# Altium integrated library AMP D Subminiature 050 Series.IntLib: 275 symbols (part 3 of 7)
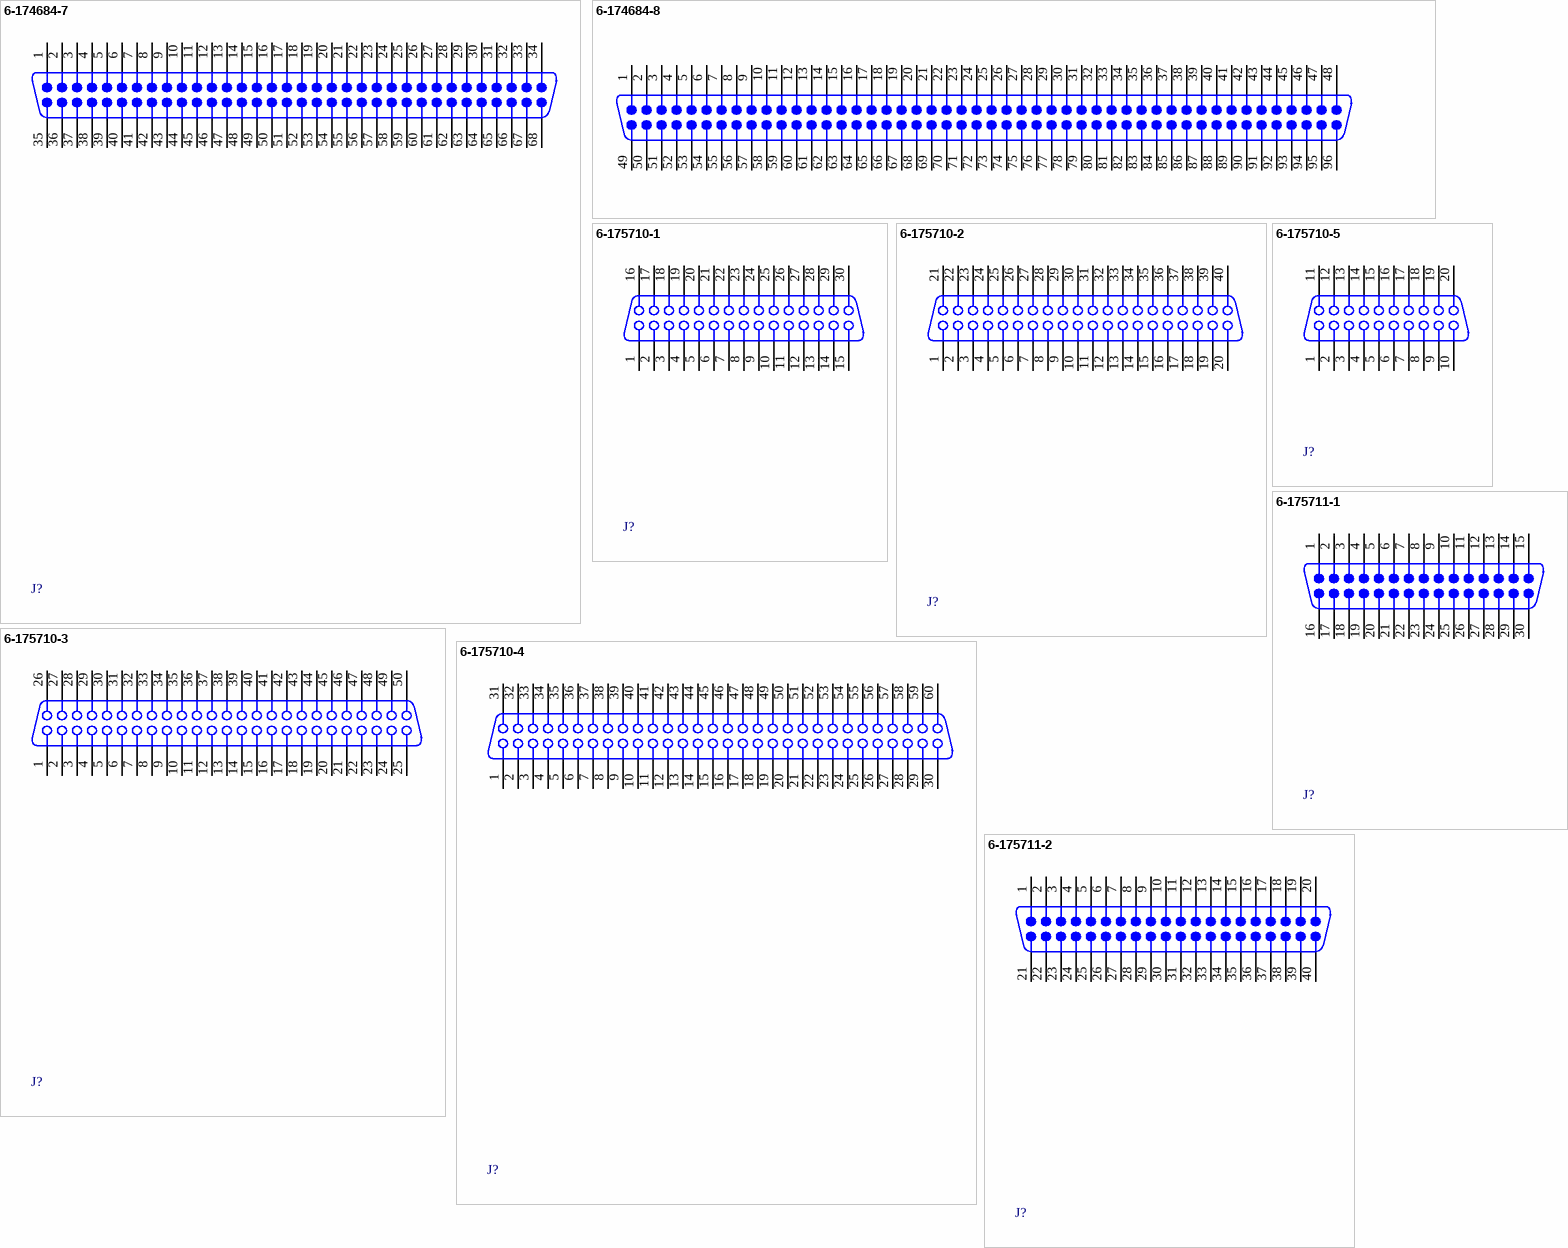
[diagram p32: symbols 6-174684-7 to 6-175711-2]

## 6-175711-2
designator J?
Cap Assembly, Vertical with Kink AMPLIMITE .050 Series I B-to-B Connector; Positions: 40; Gender: Plug Header; Note: Without Mating Lock; PCB_Layout: Complies with manufacturer's recommendation.; DrillSize: Corresponds to nominal value.; Published: 17-Jul-2002; DatasheetDocument: Sep-1993; PackageDocument: Sep-1993; PackageReference: 6-175711-2; Publisher: Altium Limited; Orientation: Vertical; Note: Series I; ComponentLink1Description: Manufacturer Link; ComponentLink1URL: http://www.tycoelectronics.com/; ComponentLink2Description: Packaging Specification; ComponentLink2URL: http://ecommas.tycoelectronics.com/commerce/DocumentDelivery/DDEController?Action=showdoc&DocId=Customer+Drawing%7F175711%7FC%7Fpdf%7FEnglish%7FENG_CD_175711_C.pdf
footprint 6-175711-2 (Connector; D Subminiature 050 Series; 40 Position; Vertical)
signal-integrity model D Subminiature
pins: 1, 2, 3, 4, 5, 6, 7, 8, 9, 10, 11, 12, 13, 14, 15, 16, 17, 18, 19, 20, 21, 22, 23, 24, 25, 26, 27, 28, 29, 30, 31, 32, 33, 34, 35, 36, 37, 38, 39, 40

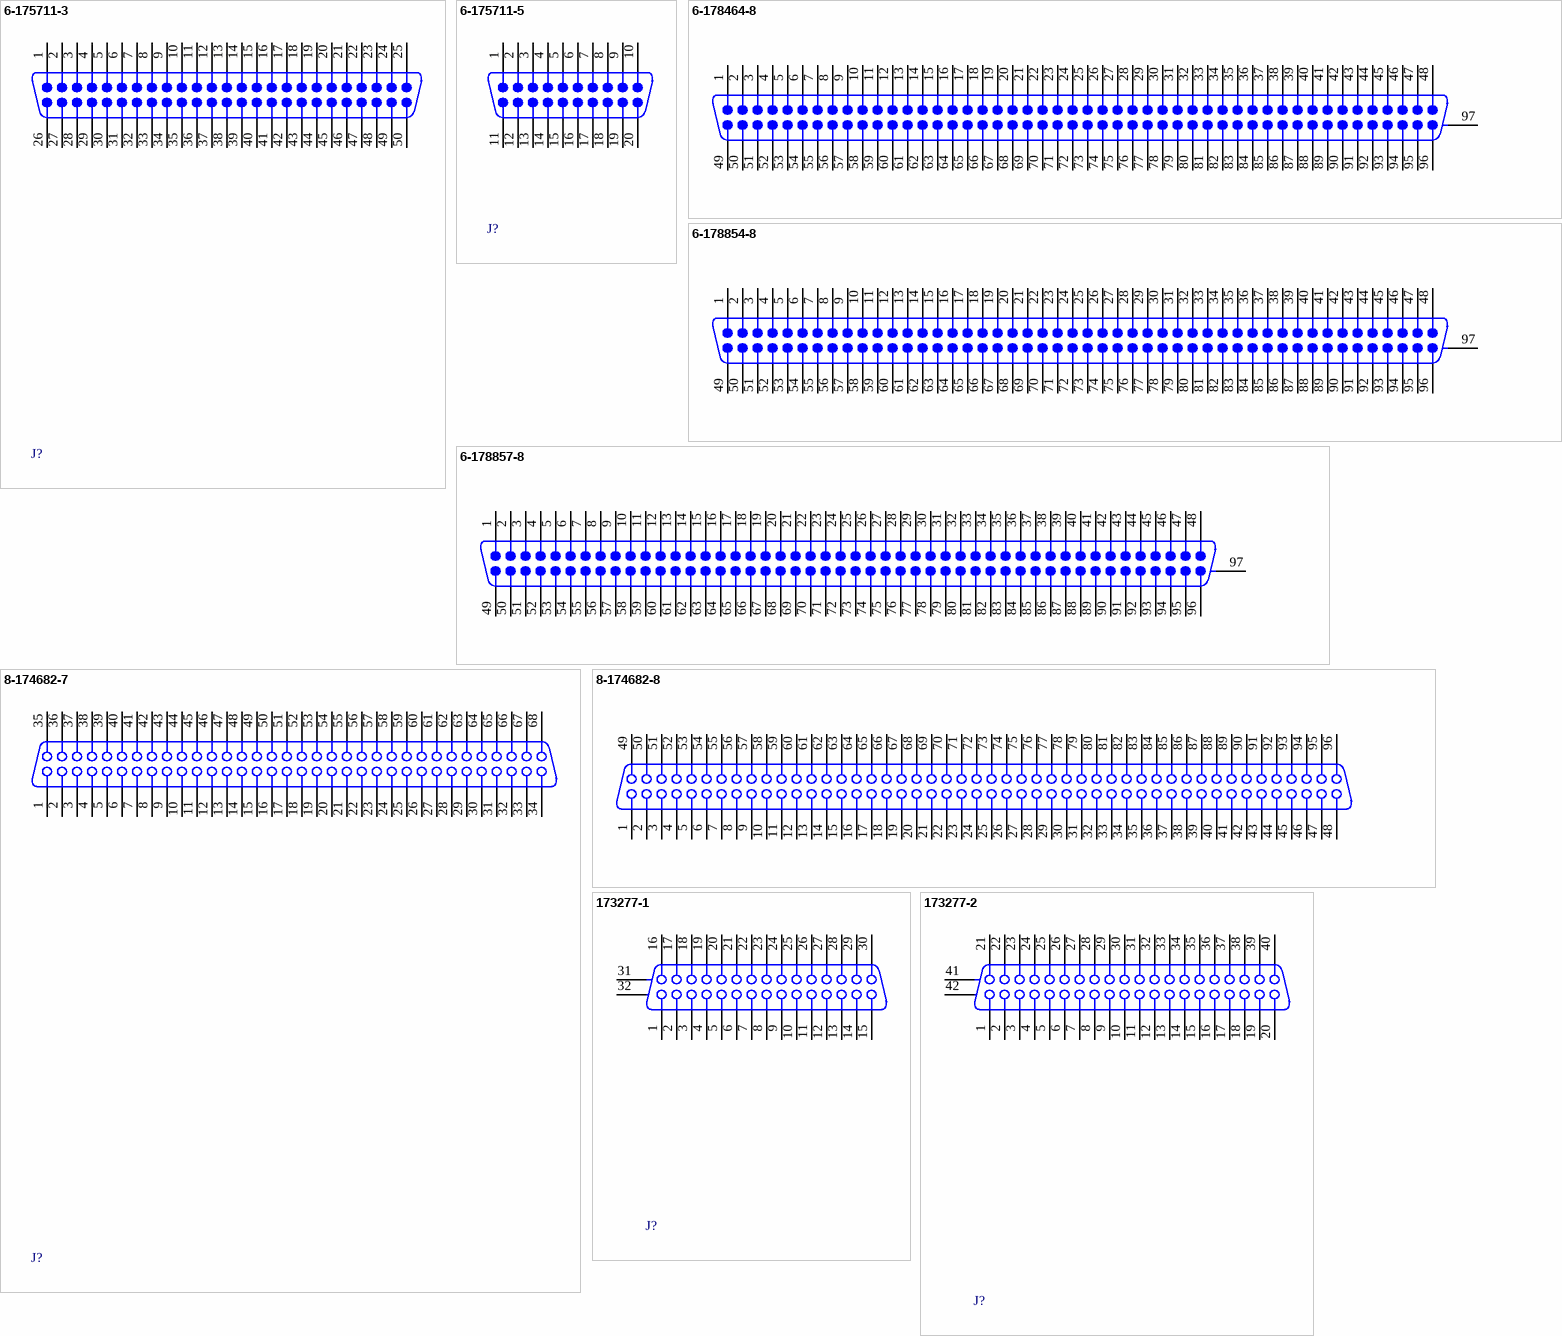
[diagram p10: symbols 6-175711-3 to 173277-2]

## 6-175711-3
designator J?
Cap Assembly, Vertical with Kink AMPLIMITE .050 Series I B-to-B Connector; Positions: 50; Gender: Plug Header; Note: Without Mating Lock; PCB_Layout: Complies with manufacturer's recommendation.; DrillSize: Corresponds to nominal value.; Published: 17-Jul-2002; DatasheetDocument: Sep-1993; PackageDocument: Sep-1993; PackageReference: 6-175711-3; Publisher: Altium Limited; Orientation: Vertical; Note: Series I; ComponentLink1Description: Manufacturer Link; ComponentLink1URL: http://www.tycoelectronics.com/; ComponentLink2Description: Packaging Specification; ComponentLink2URL: http://ecommas.tycoelectronics.com/commerce/DocumentDelivery/DDEController?Action=showdoc&DocId=Customer+Drawing%7F175711%7FC%7Fpdf%7FEnglish%7FENG_CD_175711_C.pdf
footprint 6-175711-3 (Connector; D Subminiature 050 Series; 50 Position; Vertical)
signal-integrity model D Subminiature
pins: 1, 2, 3, 4, 5, 6, 7, 8, 9, 10, 11, 12, 13, 14, 15, 16, 17, 18, 19, 20, 21, 22, 23, 24, 25, 26, 27, 28, 29, 30, 31, 32, 33, 34, 35, 36, 37, 38, 39, 40, 41, 42, 43, 44, 45, 46, 47, 48, 49, 50

## 6-175711-5
designator J?
Cap Assembly, Vertical with Kink AMPLIMITE .050 Series I B-to-B Connector; Positions: 20; Gender: Plug Header; Note: Without Mating Lock; PCB_Layout: Complies with manufacturer's recommendation.; DrillSize: Corresponds to nominal value.; Published: 17-Jul-2002; DatasheetDocument: Sep-1993; PackageDocument: Sep-1993; PackageReference: 6-175711-5; Publisher: Altium Limited; Orientation: Vertical; Note: Series I; ComponentLink1Description: Manufacturer Link; ComponentLink1URL: http://www.tycoelectronics.com/; ComponentLink2Description: Packaging Specification; ComponentLink2URL: http://ecommas.tycoelectronics.com/commerce/DocumentDelivery/DDEController?Action=showdoc&DocId=Customer+Drawing%7F175711%7FC%7Fpdf%7FEnglish%7FENG_CD_175711_C.pdf
footprint 6-175711-5 (Connector; D Subminiature 050 Series; 20 Position; Vertical)
signal-integrity model D Subminiature
pins: 1, 2, 3, 4, 5, 6, 7, 8, 9, 10, 11, 12, 13, 14, 15, 16, 17, 18, 19, 20

## 6-178464-8
designator J?
Cap Assembly, Vertical with Kink and Post for AMPLIMITE B-to-B Connector; Positions: 96; Note: Series III; Gender: Plug Header; Note: Without Mating Lock; PCB_Layout: Complies with manufacturer's recommendation.; DrillSize: Corresponds to nominal value.; Published: 17-Jul-2002; DatasheetDocument: 5-Dec-1991; PackageDocument: 05-Dec-1991; PackageReference: 6-178464-8; Publisher: Altium Limited; Orientation: Vertical; ComponentLink1Description: Manufacturer Link; ComponentLink1URL: http://www.tycoelectronics.com/; ComponentLink2Description: Packaging Specification; ComponentLink2URL: http://ecommas.tycoelectronics.com/commerce/DocumentDelivery/DDEController?Action=showdoc&DocId=Customer+Drawing%7F178464%7FC%7Fpdf%7FEnglish%7FENG_CD_178464_C.pdf; ComponentLink3Description: Iges Model; ComponentLink3URL: http://catalog.tycoelectronics.com/TE/docs/cadgeo/0/90/13090.tar.gz
footprint 6-178464-8 (Connector; D Subminiature 050 Series; 96 Position; Vertical)
signal-integrity model D Subminiature
pins: 1, 2, 3, 4, 5, 6, 7, 8, 9, 10, 11, 12, 13, 14, 15, 16, 17, 18, 19, 20, 21, 22, 23, 24, 25, 26, 27, 28, 29, 30, 31, 32, 33, 34, 35, 36, 37, 38, 39, 40, 41, 42, 43, 44, 45, 46, 47, 48, 49, 50, 51, 52, 53, 54, 55, 56, 57, 58, 59, 60, 61, 62, 63, 64, 65, 66, 67, 68, 69, 70, 71, 72, 73, 74, 75, 76, 77, 78, 79, 80, 81, 82, 83, 84, 85, 86, 87, 88, 89, 90, 91, 92, 93, 94, 95, 96, 97 MH1

## 6-178854-8
designator J?
Cap Assembly, Vertical with Kink and with Left Post LCP for AMPLIMITE; Positions: 96; Note: Series I; Gender: Plug Header; Note: Without Mating Lock; PCB_Layout: Complies with manufacturer's recommendation.; DrillSize: Corresponds to nominal value.; Published: 17-Jul-2002; DatasheetDocument: 12-Feb-1992; PackageDocument: 12-Feb-1992; PackageReference: 6-178854-8; Publisher: Altium Limited; Orientation: Vertical; ComponentLink1Description: Manufacturer Link; ComponentLink1URL: http://www.tycoelectronics.com/; ComponentLink2Description: Packaging Specification; ComponentLink2URL: http://ecommas.tycoelectronics.com/commerce/DocumentDelivery/DDEController?Action=showdoc&DocId=Customer+Drawing%7F178854%7FC%7Fpdf%7FEnglish%7FENG_CD_178854_C.pdf
footprint 6-178854-8 (Connector; D Subminiature 050 Series; 96 Position; Vertical)
signal-integrity model D Subminiature
pins: 1, 2, 3, 4, 5, 6, 7, 8, 9, 10, 11, 12, 13, 14, 15, 16, 17, 18, 19, 20, 21, 22, 23, 24, 25, 26, 27, 28, 29, 30, 31, 32, 33, 34, 35, 36, 37, 38, 39, 40, 41, 42, 43, 44, 45, 46, 47, 48, 49, 50, 51, 52, 53, 54, 55, 56, 57, 58, 59, 60, 61, 62, 63, 64, 65, 66, 67, 68, 69, 70, 71, 72, 73, 74, 75, 76, 77, 78, 79, 80, 81, 82, 83, 84, 85, 86, 87, 88, 89, 90, 91, 92, 93, 94, 95, 96, 97 MH1

## 6-178857-8
designator J?
Cap Assembly, Vertical with Kink and with Right Post LCP for AMPLIMITE I B-to-B Connector; Positions: 96; Note: Series I; Gender: Plug Header; Note: Without Mating Lock; PCB_Layout: Complies with manufacturer's recommendation.; DrillSize: Corresponds to nominal value.; Published: 17-Jul-2002; DatasheetDocument: 12-Dec-92; PackageDocument: 12-Dec-1992; PackageReference: 6-178857-8; Publisher: Altium Limited; Orientation: Vertical; ComponentLink1Description: Manufacturer Link; ComponentLink1URL: http://www.tycoelectronics.com/; ComponentLink2Description: Packaging Specification; ComponentLink2URL: http://ecommas.tycoelectronics.com/commerce/DocumentDelivery/DDEController?Action=showdoc&DocId=Customer+Drawing%7F178857%7FC%7Fpdf%7FEnglish%7FENG_CD_178857_C.pdf
footprint 6-178857-8 (Connector; D Subminiature 050 Series; 96 Position; Vertical)
signal-integrity model D Subminiature
pins: 1, 2, 3, 4, 5, 6, 7, 8, 9, 10, 11, 12, 13, 14, 15, 16, 17, 18, 19, 20, 21, 22, 23, 24, 25, 26, 27, 28, 29, 30, 31, 32, 33, 34, 35, 36, 37, 38, 39, 40, 41, 42, 43, 44, 45, 46, 47, 48, 49, 50, 51, 52, 53, 54, 55, 56, 57, 58, 59, 60, 61, 62, 63, 64, 65, 66, 67, 68, 69, 70, 71, 72, 73, 74, 75, 76, 77, 78, 79, 80, 81, 82, 83, 84, 85, 86, 87, 88, 89, 90, 91, 92, 93, 94, 95, 96, 97 MH1

## 8-174682-7
designator J?
Plug Assembly, Horizontal with Kink; Positions: 68; Note: Series I; Gender: Receptacle Header; Note: Without Mating Lock; PCB_Layout: Complies with manufacturer's recommendation.; DrillSize: Corresponds to nominal value.; ComponentAvailability: Obsolete; Published: 17-Jul-2002; DatasheetDocument: 29-Mar-1991; PackageDocument: 29-Mar-1991; PackageReference: 8-174682-7; Publisher: Altium Limited; Orientation: Right Angle; ComponentLink1Description: Manufacturer Link; ComponentLink1URL: http://www.tycoelectronics.com/; ComponentLink2Description: Packaging Specification; ComponentLink2URL: http://ecommas.tycoelectronics.com/commerce/DocumentDelivery/DDEController?Action=showdoc&DocId=Customer+Drawing%7F174682%7FD%7Ftif%7FJapanese%7FJPN_CD_174682_D.tif
footprint 8-174682-7 (Connector; D Subminiature 050 Series; 68 Position; Right Angle)
signal-integrity model D Subminiature
pins: 1, 2, 3, 4, 5, 6, 7, 8, 9, 10, 11, 12, 13, 14, 15, 16, 17, 18, 19, 20, 21, 22, 23, 24, 25, 26, 27, 28, 29, 30, 31, 32, 33, 34, 35, 36, 37, 38, 39, 40, 41, 42, 43, 44, 45, 46, 47, 48, 49, 50, 51, 52, 53, 54, 55, 56, 57, 58, 59, 60, 61, 62, 63, 64, 65, 66, 67, 68

## 8-174682-8
designator J?
Plug Assembly, Horizontal with Kink; Positions: 96; Note: Series I; Gender: Receptacle Header; Note: Without Mating Lock; PCB_Layout: Complies with manufacturer's recommendation.; DrillSize: Corresponds to nominal value.; ComponentAvailability: Obsolete; Published: 17-Jul-2002; DatasheetDocument: 29-Mar-1991; PackageDocument: 29-Mar-1991; PackageReference: 8-174682-8; Publisher: Altium Limited; Orientation: Right Angle; ComponentLink1Description: Manufacturer Link; ComponentLink1URL: http://www.tycoelectronics.com/; ComponentLink2Description: Packaging Specification; ComponentLink2URL: http://ecommas.tycoelectronics.com/commerce/DocumentDelivery/DDEController?Action=showdoc&DocId=Customer+Drawing%7F174682%7FD%7Ftif%7FJapanese%7FJPN_CD_174682_D.tif
footprint 8-174682-8 (Connector; D Subminiature 050 Series; 96 Position; Right Angle)
signal-integrity model D Subminiature
pins: 1, 2, 3, 4, 5, 6, 7, 8, 9, 10, 11, 12, 13, 14, 15, 16, 17, 18, 19, 20, 21, 22, 23, 24, 25, 26, 27, 28, 29, 30, 31, 32, 33, 34, 35, 36, 37, 38, 39, 40, 41, 42, 43, 44, 45, 46, 47, 48, 49, 50, 51, 52, 53, 54, 55, 56, 57, 58, 59, 60, 61, 62, 63, 64, 65, 66, 67, 68, 69, 70, 71, 72, 73, 74, 75, 76, 77, 78, 79, 80, 81, 82, 83, 84, 85, 86, 87, 88, 89, 90, 91, 92, 93, 94, 95, 96

## 173277-1
designator J?
Plug Assembly, Horizontal for AMPLIMITE I B-to-B Connector; Positions: 30; Note: Series I; Gender: Receptacle Header; Note: Without Mating Lock; PCB_Layout: Complies with manufacturer's recommendation.; DrillSize: Corresponds to nominal value.; Published: 17-Jul-2002; DatasheetDocument: Apr-1991; PackageDocument: Apr-1991; PackageReference: 173277-1; Publisher: Altium Limited; Orientation: Right Angle; ComponentLink1Description: Manufacturer Link; ComponentLink1URL: http://www.tycoelectronics.com/; ComponentLink2Description: Packaging Specification; ComponentLink2URL: http://ecommas.tycoelectronics.com/commerce/DocumentDelivery/DDEController?Action=showdoc&DocId=Customer+Drawing%7F173277%7FG%7Fpdf%7FEnglish%7FENG_CD_173277_G.pdf
footprint 173277-1 (Connector; D Subminiature 050 Series; 30 Position; Right Angle)
signal-integrity model D Subminiature
pins: 1, 2, 3, 4, 5, 6, 7, 8, 9, 10, 11, 12, 13, 14, 15, 16, 17, 18, 19, 20, 21, 22, 23, 24, 25, 26, 27, 28, 29, 30, 31 MH1, 32 MH2

## 173277-2
designator J?
Plug Assembly, Horizontal for AMPLIMITE I B-to-B Connector; Positions: 40; Note: Series I; Gender: Receptacle Header; Note: Without Mating Lock; PCB_Layout: Complies with manufacturer's recommendation.; DrillSize: Corresponds to nominal value.; Published: 17-Jul-2002; DatasheetDocument: Apr-1991; PackageDocument: Apr-1991; PackageReference: 173277-2; Publisher: Altium Limited; Orientation: Right Angle; ComponentLink1Description: Manufacturer Link; ComponentLink1URL: http://www.tycoelectronics.com/; ComponentLink2Description: Packaging Specification; ComponentLink2URL: http://ecommas.tycoelectronics.com/commerce/DocumentDelivery/DDEController?Action=showdoc&DocId=Customer+Drawing%7F173277%7FG%7Fpdf%7FEnglish%7FENG_CD_173277_G.pdf
footprint 173277-2 (Connector; D Subminiature 050 Series; 40 Position; Right Angle)
signal-integrity model D Subminiature
pins: 1, 2, 3, 4, 5, 6, 7, 8, 9, 10, 11, 12, 13, 14, 15, 16, 17, 18, 19, 20, 21, 22, 23, 24, 25, 26, 27, 28, 29, 30, 31, 32, 33, 34, 35, 36, 37, 38, 39, 40, 41 MH1, 42 MH2

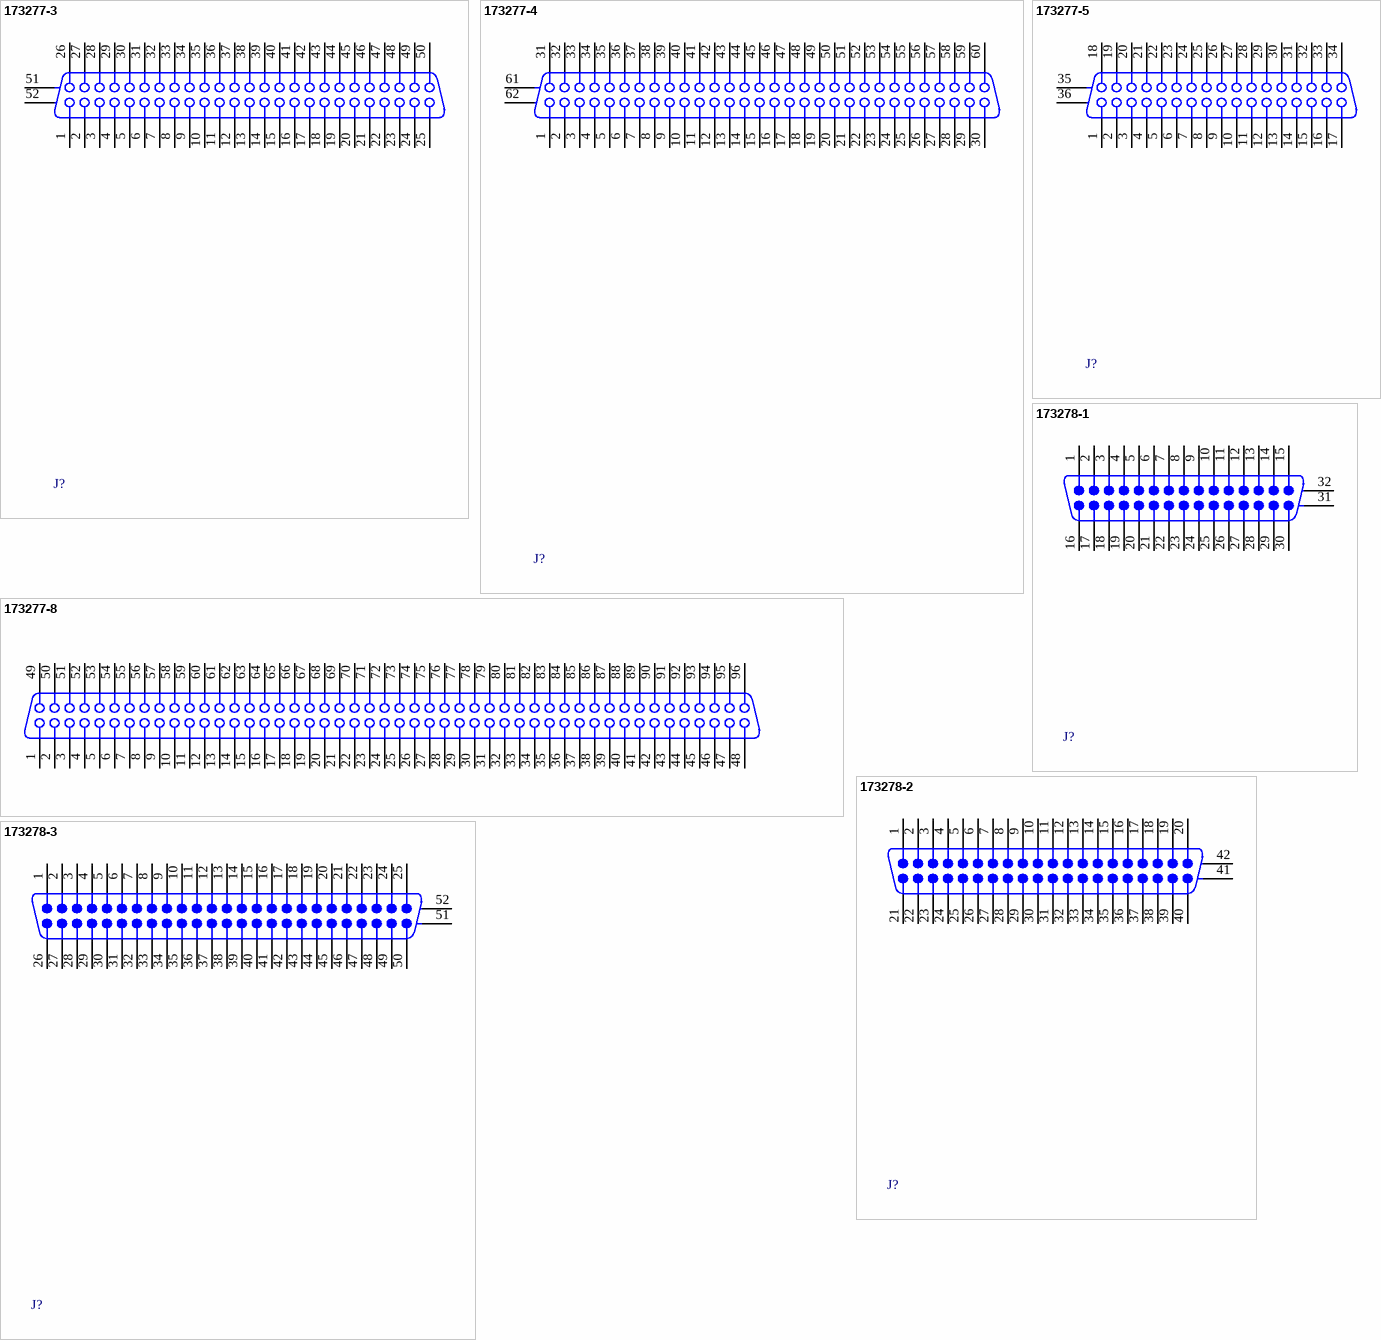
[diagram p11: symbols 173277-3 to 173278-3]

## 173277-3
designator J?
Plug Assembly, Horizontal for AMPLIMITE I B-to-B Connector; Positions: 50; Note: Series I; Gender: Receptacle Header; Note: Without Mating Lock; PCB_Layout: Complies with manufacturer's recommendation.; DrillSize: Corresponds to nominal value.; Published: 17-Jul-2002; DatasheetDocument: Apr-1991; PackageDocument: Apr-1991; PackageReference: 173277-3; Publisher: Altium Limited; Orientation: Right Angle; ComponentLink1Description: Manufacturer Link; ComponentLink1URL: http://www.tycoelectronics.com/; ComponentLink2Description: Packaging Specification; ComponentLink2URL: http://ecommas.tycoelectronics.com/commerce/DocumentDelivery/DDEController?Action=showdoc&DocId=Customer+Drawing%7F173277%7FG%7Fpdf%7FEnglish%7FENG_CD_173277_G.pdf
footprint 173277-3 (Connector; D Subminiature 050 Series; 50 Position; Right Angle)
signal-integrity model D Subminiature
pins: 1, 2, 3, 4, 5, 6, 7, 8, 9, 10, 11, 12, 13, 14, 15, 16, 17, 18, 19, 20, 21, 22, 23, 24, 25, 26, 27, 28, 29, 30, 31, 32, 33, 34, 35, 36, 37, 38, 39, 40, 41, 42, 43, 44, 45, 46, 47, 48, 49, 50, 51 MH1, 52 MH2

## 173277-4
designator J?
Plug Assembly, Horizontal for AMPLIMITE I B-to-B Connector; Positions: 60; Note: Series I; Gender: Receptacle Header; Note: Without Mating Lock; PCB_Layout: Complies with manufacturer's recommendation.; DrillSize: Corresponds to nominal value.; Published: 17-Jul-2002; DatasheetDocument: Apr-1991; PackageDocument: Apr-1991; PackageReference: 173277-4; Publisher: Altium Limited; Orientation: Right Angle; ComponentLink1Description: Manufacturer Link; ComponentLink1URL: http://www.tycoelectronics.com/; ComponentLink2Description: Packaging Specification; ComponentLink2URL: http://ecommas.tycoelectronics.com/commerce/DocumentDelivery/DDEController?Action=showdoc&DocId=Customer+Drawing%7F173277%7FG%7Fpdf%7FEnglish%7FENG_CD_173277_G.pdf
footprint 173277-4 (Connector; D Subminiature 050 Series; 60 Position; Right Angle)
signal-integrity model D Subminiature
pins: 1, 2, 3, 4, 5, 6, 7, 8, 9, 10, 11, 12, 13, 14, 15, 16, 17, 18, 19, 20, 21, 22, 23, 24, 25, 26, 27, 28, 29, 30, 31, 32, 33, 34, 35, 36, 37, 38, 39, 40, 41, 42, 43, 44, 45, 46, 47, 48, 49, 50, 51, 52, 53, 54, 55, 56, 57, 58, 59, 60, 61 MH1, 62 MH2

## 173277-5
designator J?
Plug Assembly, Horizontal for AMPLIMITE I B-to-B Connector; Positions: 34; Note: Series I; Gender: Receptacle Header; Note: Without Mating Lock; PCB_Layout: Complies with manufacturer's recommendation.; DrillSize: Corresponds to nominal value.; Published: 17-Jul-2002; DatasheetDocument: Apr-1991; PackageDocument: Apr-1991; PackageReference: 173277-5; Publisher: Altium Limited; Orientation: Right Angle; ComponentLink1Description: Manufacturer Link; ComponentLink1URL: http://www.tycoelectronics.com/; ComponentLink2Description: Packaging Specification; ComponentLink2URL: http://ecommas.tycoelectronics.com/commerce/DocumentDelivery/DDEController?Action=showdoc&DocId=Customer+Drawing%7F173277%7FG%7Fpdf%7FEnglish%7FENG_CD_173277_G.pdf
footprint 173277-5 (Connector; D Subminiature 050 Series; 34 Position; Right Angle)
signal-integrity model D Subminiature
pins: 1, 2, 3, 4, 5, 6, 7, 8, 9, 10, 11, 12, 13, 14, 15, 16, 17, 18, 19, 20, 21, 22, 23, 24, 25, 26, 27, 28, 29, 30, 31, 32, 33, 34, 35 MH1, 36 MH2

## 173277-8
designator J?
Plug Assembly, Horizontal for AMPLIMITE I B-to-B Connector; Positions: 96; Note: Series I; Gender: Receptacle Header; Note: Without Mating Lock; PCB_Layout: Complies with manufacturer's recommendation.; DrillSize: Corresponds to nominal value.; Published: 17-Jul-2002; DatasheetDocument: Apr-1991; PackageDocument: Apr-1991; PackageReference: 173277-8; Publisher: Altium Limited; Orientation: Right Angle; ComponentLink1Description: Manufacturer Link; ComponentLink1URL: http://www.tycoelectronics.com/; ComponentLink2Description: Packaging Specification; ComponentLink2URL: http://ecommas.tycoelectronics.com/commerce/DocumentDelivery/DDEController?Action=showdoc&DocId=Customer+Drawing%7F173277%7FG%7Fpdf%7FEnglish%7FENG_CD_173277_G.pdf
footprint 173277-8 (Connector; D Subminiature 050 Series; 96 Position; Right Angle)
signal-integrity model D Subminiature
pins: 1, 2, 3, 4, 5, 6, 7, 8, 9, 10, 11, 12, 13, 14, 15, 16, 17, 18, 19, 20, 21, 22, 23, 24, 25, 26, 27, 28, 29, 30, 31, 32, 33, 34, 35, 36, 37, 38, 39, 40, 41, 42, 43, 44, 45, 46, 47, 48, 49, 50, 51, 52, 53, 54, 55, 56, 57, 58, 59, 60, 61, 62, 63, 64, 65, 66, 67, 68, 69, 70, 71, 72, 73, 74, 75, 76, 77, 78, 79, 80, 81, 82, 83, 84, 85, 86, 87, 88, 89, 90, 91, 92, 93, 94, 95, 96

## 173278-1
designator J?
Cap Assembly, (Horizontal without Leg) AMPLIMITE I B-to-B Connector; Positions: 30; Note: Series I; Gender: Plug Header; Note: Without Mating Lock; PCB_Layout: Complies with manufacturer's recommendation.; DrillSize: Corresponds to nominal value.; Published: 17-Jul-2002; DatasheetDocument: Apr-1991; PackageDocument: Apr-1991; PackageReference: 173278-1; Publisher: Altium Limited; Orientation: Right Angle; ComponentLink1Description: Manufacturer Link; ComponentLink1URL: http://www.tycoelectronics.com/; ComponentLink2Description: Packaging Specification; ComponentLink2URL: http://ecommas.tycoelectronics.com/commerce/DocumentDelivery/DDEController?Action=showdoc&DocId=Customer+Drawing%7F173278%7FC%7Fpdf%7FEnglish%7FENG_CD_173278_C.pdf
footprint 173278-1 (Connector; D Subminiature 050 Series; 30 Position; Right Angle)
signal-integrity model D Subminiature
pins: 1, 2, 3, 4, 5, 6, 7, 8, 9, 10, 11, 12, 13, 14, 15, 16, 17, 18, 19, 20, 21, 22, 23, 24, 25, 26, 27, 28, 29, 30, 31 MH1, 32 MH2

## 173278-2
designator J?
Cap Assembly, (Horizontal without Leg) AMPLIMITE I B-to-B Connector; Positions: 40; Note: Series I; Gender: Plug Header; Note: Without Mating Lock; PCB_Layout: Complies with manufacturer's recommendation.; DrillSize: Corresponds to nominal value.; Published: 17-Jul-2002; DatasheetDocument: Apr-1991; PackageDocument: Apr-1991; PackageReference: 173278-2; Publisher: Altium Limited; Orientation: Right Angle; ComponentLink1Description: Manufacturer Link; ComponentLink1URL: http://www.tycoelectronics.com/; ComponentLink2Description: Packaging Specification; ComponentLink2URL: http://ecommas.tycoelectronics.com/commerce/DocumentDelivery/DDEController?Action=showdoc&DocId=Customer+Drawing%7F173278%7FC%7Fpdf%7FEnglish%7FENG_CD_173278_C.pdf
footprint 173278-2 (Connector; D Subminiature 050 Series; 40 Position; Right Angle)
signal-integrity model D Subminiature
pins: 1, 2, 3, 4, 5, 6, 7, 8, 9, 10, 11, 12, 13, 14, 15, 16, 17, 18, 19, 20, 21, 22, 23, 24, 25, 26, 27, 28, 29, 30, 31, 32, 33, 34, 35, 36, 37, 38, 39, 40, 41 MH1, 42 MH2

## 173278-3
designator J?
Cap Assembly, (Horizontal without Leg) AMPLIMITE I B-to-B Connector; Positions: 50; Note: Series I; Gender: Plug Header; Note: Without Mating Lock; PCB_Layout: Complies with manufacturer's recommendation.; DrillSize: Corresponds to nominal value.; Published: 17-Jul-2002; DatasheetDocument: Apr-1991; PackageDocument: Apr-1991; PackageReference: 173278-3; Publisher: Altium Limited; Orientation: Right Angle; ComponentLink1Description: Manufacturer Link; ComponentLink1URL: http://www.tycoelectronics.com/; ComponentLink2Description: Packaging Specification; ComponentLink2URL: http://ecommas.tycoelectronics.com/commerce/DocumentDelivery/DDEController?Action=showdoc&DocId=Customer+Drawing%7F173278%7FC%7Fpdf%7FEnglish%7FENG_CD_173278_C.pdf
footprint 173278-3 (Connector; D Subminiature 050 Series; 50 Position; Right Angle)
signal-integrity model D Subminiature
pins: 1, 2, 3, 4, 5, 6, 7, 8, 9, 10, 11, 12, 13, 14, 15, 16, 17, 18, 19, 20, 21, 22, 23, 24, 25, 26, 27, 28, 29, 30, 31, 32, 33, 34, 35, 36, 37, 38, 39, 40, 41, 42, 43, 44, 45, 46, 47, 48, 49, 50, 51 MH1, 52 MH2

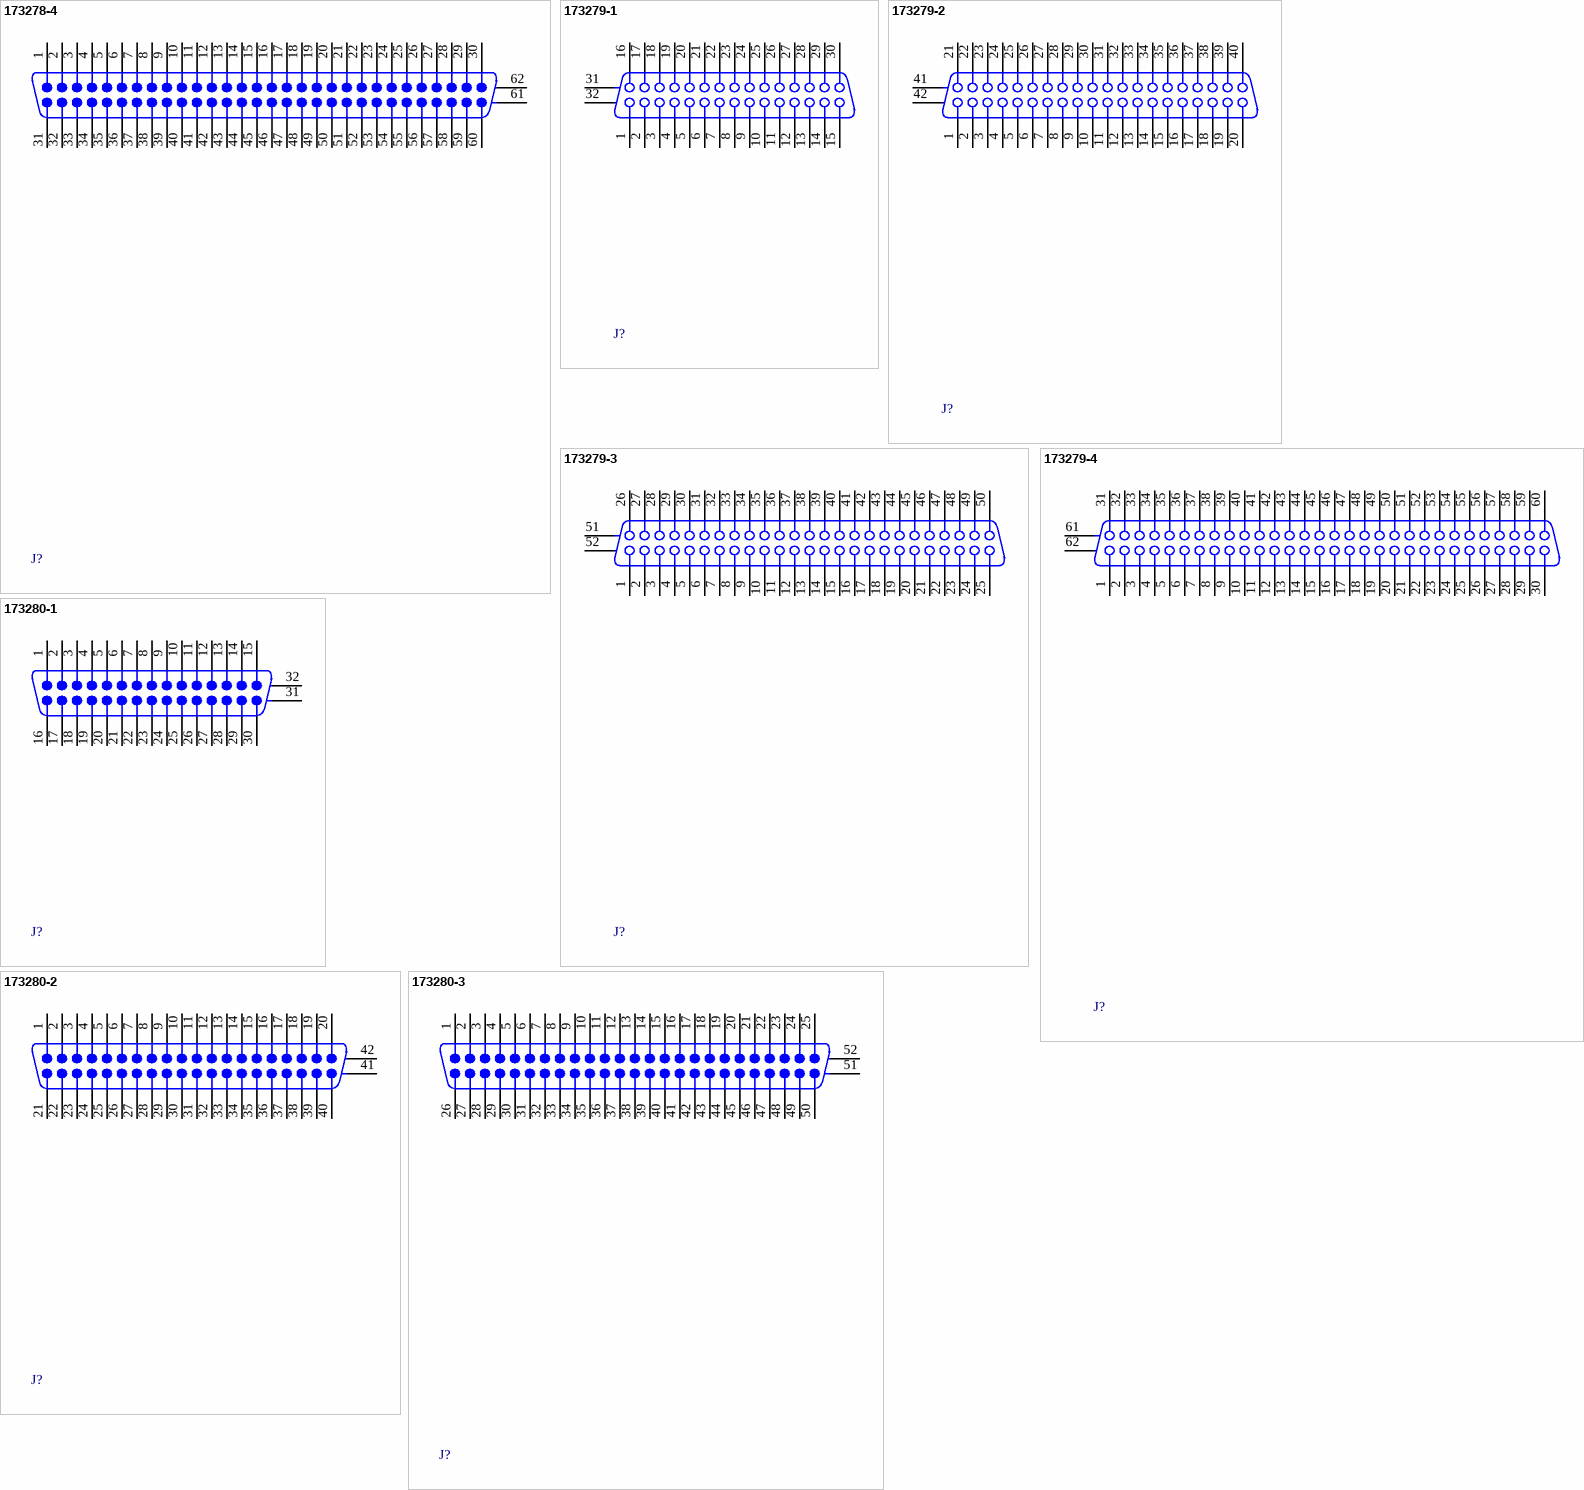
[diagram p12: symbols 173278-4 to 173280-3]

## 173278-4
designator J?
Cap Assembly, (Horizontal without Leg) AMPLIMITE I B-to-B Connector; Positions: 60; Note: Series I; Gender: Plug Header; Note: Without Mating Lock; PCB_Layout: Complies with manufacturer's recommendation.; DrillSize: Corresponds to nominal value.; Published: 17-Jul-2002; DatasheetDocument: Apr-1991; PackageDocument: Apr-1991; PackageReference: 173278-4; Publisher: Altium Limited; Orientation: Right Angle; ComponentLink1Description: Manufacturer Link; ComponentLink1URL: http://www.tycoelectronics.com/; ComponentLink2Description: Packaging Specification; ComponentLink2URL: http://ecommas.tycoelectronics.com/commerce/DocumentDelivery/DDEController?Action=showdoc&DocId=Customer+Drawing%7F173278%7FC%7Fpdf%7FEnglish%7FENG_CD_173278_C.pdf
footprint 173278-4 (Connector; D Subminiature 050 Series; 60 Position; Right Angle)
signal-integrity model D Subminiature
pins: 1, 2, 3, 4, 5, 6, 7, 8, 9, 10, 11, 12, 13, 14, 15, 16, 17, 18, 19, 20, 21, 22, 23, 24, 25, 26, 27, 28, 29, 30, 31, 32, 33, 34, 35, 36, 37, 38, 39, 40, 41, 42, 43, 44, 45, 46, 47, 48, 49, 50, 51, 52, 53, 54, 55, 56, 57, 58, 59, 60, 61 MH1, 62 MH2

## 173279-1
designator J?
Plug Assembly, (Vertical with Screw Hole) AMPLIMITE I B-to-B Connector; Positions: 30; Note: Series I; Gender: Receptacle Header; Note: Without Mating Lock; PCB_Layout: Complies with manufacturer's recommendation.; DrillSize: Corresponds to nominal value.; Published: 17-Jul-2002; DatasheetDocument: Apr-1991; PackageDocument: Apr-1991; PackageReference: 173279-1; Publisher: Altium Limited; Orientation: Vertical; ComponentLink1Description: Manufacturer Link; ComponentLink1URL: http://www.tycoelectronics.com/; ComponentLink2Description: Packaging Specification; ComponentLink2URL: http://ecommas.tycoelectronics.com/commerce/DocumentDelivery/DDEController?Action=showdoc&DocId=Customer+Drawing%7F173279%7FC%7Fpdf%7FEnglish%7FENG_CD_173279_C.pdf; ComponentLink3Description: Iges Model; ComponentLink3URL: http://catalog.tycoelectronics.com/TE/docs/cadgeo/8/72/30278.tar.gz
footprint 173279-1 (Connector; D Subminiature 050 Series; 30 Position; Vertical)
signal-integrity model D Subminiature
pins: 1, 2, 3, 4, 5, 6, 7, 8, 9, 10, 11, 12, 13, 14, 15, 16, 17, 18, 19, 20, 21, 22, 23, 24, 25, 26, 27, 28, 29, 30, 31 MH1, 32 MH2

## 173279-2
designator J?
Plug Assembly, (Vertical with Screw Hole) AMPLIMITE I B-to-B Connector; Positions: 40; Note: Series I; Gender: Receptacle Header; Note: Without Mating Lock; PCB_Layout: Complies with manufacturer's recommendation.; DrillSize: Corresponds to nominal value.; Published: 17-Jul-2002; DatasheetDocument: Apr-1991; PackageDocument: Apr-1991; PackageReference: 173279-2; Publisher: Altium Limited; Orientation: Vertical; ComponentLink1Description: Manufacturer Link; ComponentLink1URL: http://www.tycoelectronics.com/; ComponentLink2Description: Packaging Specification; ComponentLink2URL: http://ecommas.tycoelectronics.com/commerce/DocumentDelivery/DDEController?Action=showdoc&DocId=Customer+Drawing%7F173279%7FC%7Fpdf%7FEnglish%7FENG_CD_173279_C.pdf; ComponentLink3Description: Iges Model; ComponentLink3URL: http://catalog.tycoelectronics.com/TE/docs/cadgeo/8/72/30278.tar.gz
footprint 173279-2 (Connector; D Subminiature 050 Series; 40 Position; Vertical)
signal-integrity model D Subminiature
pins: 1, 2, 3, 4, 5, 6, 7, 8, 9, 10, 11, 12, 13, 14, 15, 16, 17, 18, 19, 20, 21, 22, 23, 24, 25, 26, 27, 28, 29, 30, 31, 32, 33, 34, 35, 36, 37, 38, 39, 40, 41 MH1, 42 MH2

## 173279-3
designator J?
Plug Assembly, (Vertical with Screw Hole) AMPLIMITE I B-to-B Connector; Positions: 50; Note: Series I; Gender: Receptacle Header; Note: Without Mating Lock; PCB_Layout: Complies with manufacturer's recommendation.; DrillSize: Corresponds to nominal value.; Published: 17-Jul-2002; DatasheetDocument: Apr-1991; PackageDocument: Apr-1991; PackageReference: 173279-3; Publisher: Altium Limited; Orientation: Vertical; ComponentLink1Description: Manufacturer Link; ComponentLink1URL: http://www.tycoelectronics.com/; ComponentLink2Description: Packaging Specification; ComponentLink2URL: http://ecommas.tycoelectronics.com/commerce/DocumentDelivery/DDEController?Action=showdoc&DocId=Customer+Drawing%7F173279%7FC%7Fpdf%7FEnglish%7FENG_CD_173279_C.pdf; ComponentLink3Description: Iges Model; ComponentLink3URL: http://catalog.tycoelectronics.com/TE/docs/cadgeo/8/72/30278.tar.gz
footprint 173279-3 (Connector; D Subminiature 050 Series; 50 Position; Vertical)
signal-integrity model D Subminiature
pins: 1, 2, 3, 4, 5, 6, 7, 8, 9, 10, 11, 12, 13, 14, 15, 16, 17, 18, 19, 20, 21, 22, 23, 24, 25, 26, 27, 28, 29, 30, 31, 32, 33, 34, 35, 36, 37, 38, 39, 40, 41, 42, 43, 44, 45, 46, 47, 48, 49, 50, 51 MH1, 52 MH2

## 173279-4
designator J?
Plug Assembly, (Vertical with Screw Hole) AMPLIMITE I B-to-B Connector; Positions: 60; Note: Series I; Gender: Receptacle Header; Note: Without Mating Lock; PCB_Layout: Complies with manufacturer's recommendation.; DrillSize: Corresponds to nominal value.; Published: 17-Jul-2002; DatasheetDocument: Apr-1991; PackageDocument: Apr-1991; PackageReference: 173279-4; Publisher: Altium Limited; Orientation: Vertical; ComponentLink1Description: Manufacturer Link; ComponentLink1URL: http://www.tycoelectronics.com/; ComponentLink2Description: Packaging Specification; ComponentLink2URL: http://ecommas.tycoelectronics.com/commerce/DocumentDelivery/DDEController?Action=showdoc&DocId=Customer+Drawing%7F173279%7FC%7Fpdf%7FEnglish%7FENG_CD_173279_C.pdf; ComponentLink3Description: Iges Model; ComponentLink3URL: http://catalog.tycoelectronics.com/TE/docs/cadgeo/8/72/30278.tar.gz
footprint 173279-4 (Connector; D Subminiature 050 Series; 60 Position; Vertical)
signal-integrity model D Subminiature
pins: 1, 2, 3, 4, 5, 6, 7, 8, 9, 10, 11, 12, 13, 14, 15, 16, 17, 18, 19, 20, 21, 22, 23, 24, 25, 26, 27, 28, 29, 30, 31, 32, 33, 34, 35, 36, 37, 38, 39, 40, 41, 42, 43, 44, 45, 46, 47, 48, 49, 50, 51, 52, 53, 54, 55, 56, 57, 58, 59, 60, 61 MH1, 62 MH2

## 173280-1
designator J?
Cap Assembly, Vertical for AMPLIMITE I B-to-B Connector; Positions: 30; Note: Series I; Gender: Plug Header; Note: Without Mating Lock; PCB_Layout: Complies with manufacturer's recommendation.; DrillSize: Corresponds to nominal value.; Published: 17-Jul-2002; DatasheetDocument: Apr-1991; PackageDocument: Apr-1991; PackageReference: 173280-1; Publisher: Altium Limited; Orientation: Vertical; ComponentLink1Description: Manufacturer Link; ComponentLink1URL: http://www.tycoelectronics.com/; ComponentLink2Description: Packaging Specification; ComponentLink2URL: http://ecommas.tycoelectronics.com/commerce/DocumentDelivery/DDEController?Action=showdoc&DocId=Customer+Drawing%7F173280%7FG%7Fpdf%7FEnglish%7FENG_CD_173280_G.pdf; ComponentLink3Description: Iges Model; ComponentLink3URL: http://catalog.tycoelectronics.com/TE/docs/cadgeo/8/44/35448.tar.gz
footprint 173280-1 (Connector; D Subminiature 050 Series; 30 Position; Vertical)
signal-integrity model D Subminiature
pins: 1, 2, 3, 4, 5, 6, 7, 8, 9, 10, 11, 12, 13, 14, 15, 16, 17, 18, 19, 20, 21, 22, 23, 24, 25, 26, 27, 28, 29, 30, 31 MH1, 32 MH2

## 173280-2
designator J?
Cap Assembly, Vertical for AMPLIMITE I B-to-B Connector; Positions: 40; Note: Series I; Gender: Plug Header; Note: Without Mating Lock; PCB_Layout: Complies with manufacturer's recommendation.; DrillSize: Corresponds to nominal value.; Published: 17-Jul-2002; DatasheetDocument: Apr-1991; PackageDocument: Apr-1991; PackageReference: 173280-2; Publisher: Altium Limited; Orientation: Vertical; ComponentLink1Description: Manufacturer Link; ComponentLink1URL: http://www.tycoelectronics.com/; ComponentLink2Description: Packaging Specification; ComponentLink2URL: http://ecommas.tycoelectronics.com/commerce/DocumentDelivery/DDEController?Action=showdoc&DocId=Customer+Drawing%7F173280%7FG%7Fpdf%7FEnglish%7FENG_CD_173280_G.pdf; ComponentLink3Description: Iges Model; ComponentLink3URL: http://catalog.tycoelectronics.com/TE/docs/cadgeo/8/44/35448.tar.gz
footprint 173280-2 (Connector; D Subminiature 050 Series; 40 Position; Vertical)
signal-integrity model D Subminiature
pins: 1, 2, 3, 4, 5, 6, 7, 8, 9, 10, 11, 12, 13, 14, 15, 16, 17, 18, 19, 20, 21, 22, 23, 24, 25, 26, 27, 28, 29, 30, 31, 32, 33, 34, 35, 36, 37, 38, 39, 40, 41 MH1, 42 MH2

## 173280-3
designator J?
Cap Assembly, Vertical for AMPLIMITE I B-to-B Connector; Positions: 50; Note: Series I; Gender: Plug Header; Note: Without Mating Lock; PCB_Layout: Complies with manufacturer's recommendation.; DrillSize: Corresponds to nominal value.; Published: 17-Jul-2002; DatasheetDocument: Apr-1991; PackageDocument: Apr-1991; PackageReference: 173280-3; Publisher: Altium Limited; Orientation: Vertical; ComponentLink1Description: Manufacturer Link; ComponentLink1URL: http://www.tycoelectronics.com/; ComponentLink2Description: Packaging Specification; ComponentLink2URL: http://ecommas.tycoelectronics.com/commerce/DocumentDelivery/DDEController?Action=showdoc&DocId=Customer+Drawing%7F173280%7FG%7Fpdf%7FEnglish%7FENG_CD_173280_G.pdf; ComponentLink3Description: Iges Model; ComponentLink3URL: http://catalog.tycoelectronics.com/TE/docs/cadgeo/8/44/35448.tar.gz
footprint 173280-3 (Connector; D Subminiature 050 Series; 50 Position; Vertical)
signal-integrity model D Subminiature
pins: 1, 2, 3, 4, 5, 6, 7, 8, 9, 10, 11, 12, 13, 14, 15, 16, 17, 18, 19, 20, 21, 22, 23, 24, 25, 26, 27, 28, 29, 30, 31, 32, 33, 34, 35, 36, 37, 38, 39, 40, 41, 42, 43, 44, 45, 46, 47, 48, 49, 50, 51 MH1, 52 MH2

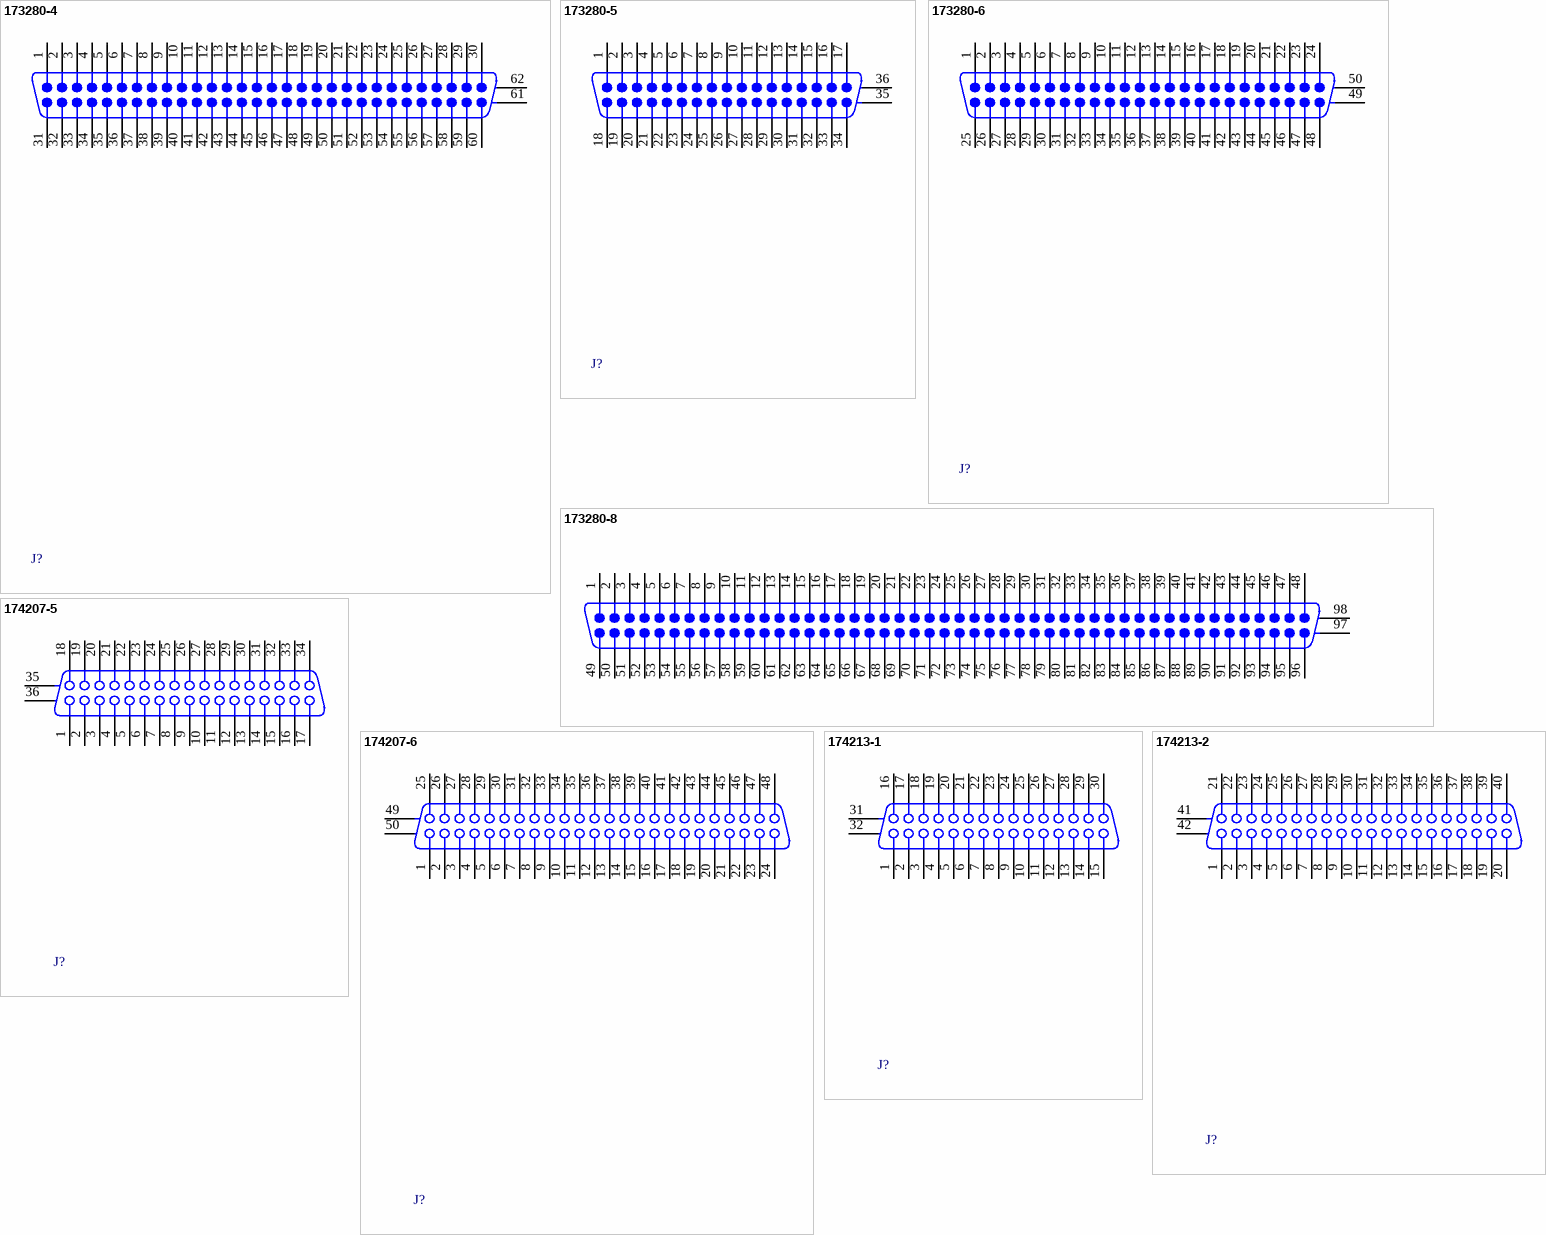
[diagram p13: symbols 173280-4 to 174213-2]

## 173280-4
designator J?
Cap Assembly, Vertical for AMPLIMITE I B-to-B Connector; Positions: 60; Note: Series I; Gender: Plug Header; Note: Without Mating Lock; PCB_Layout: Complies with manufacturer's recommendation.; DrillSize: Corresponds to nominal value.; Published: 17-Jul-2002; DatasheetDocument: Apr-1991; PackageDocument: Apr-1991; PackageReference: 173280-4; Publisher: Altium Limited; Orientation: Vertical; ComponentLink1Description: Manufacturer Link; ComponentLink1URL: http://www.tycoelectronics.com/; ComponentLink2Description: Packaging Specification; ComponentLink2URL: http://ecommas.tycoelectronics.com/commerce/DocumentDelivery/DDEController?Action=showdoc&DocId=Customer+Drawing%7F173280%7FG%7Fpdf%7FEnglish%7FENG_CD_173280_G.pdf; ComponentLink3Description: Iges Model; ComponentLink3URL: http://catalog.tycoelectronics.com/TE/docs/cadgeo/8/44/35448.tar.gz
footprint 173280-4 (Connector; D Subminiature 050 Series; 60 Position; Vertical)
signal-integrity model D Subminiature
pins: 1, 2, 3, 4, 5, 6, 7, 8, 9, 10, 11, 12, 13, 14, 15, 16, 17, 18, 19, 20, 21, 22, 23, 24, 25, 26, 27, 28, 29, 30, 31, 32, 33, 34, 35, 36, 37, 38, 39, 40, 41, 42, 43, 44, 45, 46, 47, 48, 49, 50, 51, 52, 53, 54, 55, 56, 57, 58, 59, 60, 61 MH1, 62 MH2

## 173280-5
designator J?
Cap Assembly, Vertical for AMPLIMITE I B-to-B Connector; Positions: 34; Note: Series I; Gender: Plug Header; Note: Without Mating Lock; PCB_Layout: Complies with manufacturer's recommendation.; DrillSize: Corresponds to nominal value.; Published: 17-Jul-2002; DatasheetDocument: Apr-1991; PackageDocument: Apr-1991; PackageReference: 173280-5; Publisher: Altium Limited; Orientation: Vertical; ComponentLink1Description: Manufacturer Link; ComponentLink1URL: http://www.tycoelectronics.com/; ComponentLink2Description: Packaging Specification; ComponentLink2URL: http://ecommas.tycoelectronics.com/commerce/DocumentDelivery/DDEController?Action=showdoc&DocId=Customer+Drawing%7F173280%7FG%7Fpdf%7FEnglish%7FENG_CD_173280_G.pdf; ComponentLink3Description: Iges Model; ComponentLink3URL: http://catalog.tycoelectronics.com/TE/docs/cadgeo/8/44/35448.tar.gz
footprint 173280-5 (Connector; D Subminiature 050 Series; 34 Position; Vertical)
signal-integrity model D Subminiature
pins: 1, 2, 3, 4, 5, 6, 7, 8, 9, 10, 11, 12, 13, 14, 15, 16, 17, 18, 19, 20, 21, 22, 23, 24, 25, 26, 27, 28, 29, 30, 31, 32, 33, 34, 35 MH1, 36 MH2

## 173280-6
designator J?
Cap Assembly, Vertical for AMPLIMITE I B-to-B Connector; Positions: 48; Note: Series I; Gender: Plug Header; Note: Without Mating Lock; PCB_Layout: Complies with manufacturer's recommendation.; DrillSize: Corresponds to nominal value.; Published: 17-Jul-2002; DatasheetDocument: Apr-1991; PackageDocument: Apr-1991; PackageReference: 173280-6; Publisher: Altium Limited; Orientation: Vertical; ComponentLink1Description: Manufacturer Link; ComponentLink1URL: http://www.tycoelectronics.com/; ComponentLink2Description: Packaging Specification; ComponentLink2URL: http://ecommas.tycoelectronics.com/commerce/DocumentDelivery/DDEController?Action=showdoc&DocId=Customer+Drawing%7F173280%7FG%7Fpdf%7FEnglish%7FENG_CD_173280_G.pdf; ComponentLink3Description: Iges Model; ComponentLink3URL: http://catalog.tycoelectronics.com/TE/docs/cadgeo/8/44/35448.tar.gz
footprint 173280-6 (Connector; D Subminiature 050 Series; 48 Position; Vertical)
signal-integrity model D Subminiature
pins: 1, 2, 3, 4, 5, 6, 7, 8, 9, 10, 11, 12, 13, 14, 15, 16, 17, 18, 19, 20, 21, 22, 23, 24, 25, 26, 27, 28, 29, 30, 31, 32, 33, 34, 35, 36, 37, 38, 39, 40, 41, 42, 43, 44, 45, 46, 47, 48, 49 MH1, 50 MH2

## 173280-8
designator J?
Cap Assembly, Vertical for AMPLIMITE I B-to-B Connector; Positions: 96; Note: Series I; Gender: Plug Header; Note: Without Mating Lock; PCB_Layout: Complies with manufacturer's recommendation.; DrillSize: Corresponds to nominal value.; Published: 17-Jul-2002; DatasheetDocument: Apr-1991; PackageDocument: Apr-1991; PackageReference: 173280-8; Publisher: Altium Limited; Orientation: Vertical; ComponentLink1Description: Manufacturer Link; ComponentLink1URL: http://www.tycoelectronics.com/; ComponentLink2Description: Packaging Specification; ComponentLink2URL: http://ecommas.tycoelectronics.com/commerce/DocumentDelivery/DDEController?Action=showdoc&DocId=Customer+Drawing%7F173280%7FG%7Fpdf%7FEnglish%7FENG_CD_173280_G.pdf; ComponentLink3Description: Iges Model; ComponentLink3URL: http://catalog.tycoelectronics.com/TE/docs/cadgeo/8/44/35448.tar.gz
footprint 173280-8 (Connector; D Subminiature 050 Series; 96 Position; Vertical)
signal-integrity model D Subminiature
pins: 1, 2, 3, 4, 5, 6, 7, 8, 9, 10, 11, 12, 13, 14, 15, 16, 17, 18, 19, 20, 21, 22, 23, 24, 25, 26, 27, 28, 29, 30, 31, 32, 33, 34, 35, 36, 37, 38, 39, 40, 41, 42, 43, 44, 45, 46, 47, 48, 49, 50, 51, 52, 53, 54, 55, 56, 57, 58, 59, 60, 61, 62, 63, 64, 65, 66, 67, 68, 69, 70, 71, 72, 73, 74, 75, 76, 77, 78, 79, 80, 81, 82, 83, 84, 85, 86, 87, 88, 89, 90, 91, 92, 93, 94, 95, 96, 97 MH1, 98 MH2

## 174207-5
designator J?
Plug Assembly, (Horizontal with Leg) AMPLIMITE I B-to-B Connector; Positions: 34; Note: Series I; Gender: Receptacle Header; Note: Without Mating Lock; PCB_Layout: Complies with manufacturer's recommendation.; DrillSize: Corresponds to nominal value.; Published: 17-Jul-2002; DatasheetDocument: Apr-1991; PackageDocument: Apr-1991; PackageReference: 174207-5; Publisher: Altium Limited; Orientation: Right Angle; ComponentLink1Description: Manufacturer Link; ComponentLink1URL: http://www.tycoelectronics.com/; ComponentLink2Description: Packaging Specification; ComponentLink2URL: http://ecommas.tycoelectronics.com/commerce/DocumentDelivery/DDEController?Action=showdoc&DocId=Customer+Drawing%7F174207%7FF%7Fpdf%7FEnglish%7FENG_CD_174207_F.pdf
footprint 174207-5 (Connector; D Subminiature 050 Series; 34 Position; Right Angle)
signal-integrity model D Subminiature
pins: 1, 2, 3, 4, 5, 6, 7, 8, 9, 10, 11, 12, 13, 14, 15, 16, 17, 18, 19, 20, 21, 22, 23, 24, 25, 26, 27, 28, 29, 30, 31, 32, 33, 34, 35 MH1, 36 MH2

## 174207-6
designator J?
Plug Assembly, (Horizontal with Leg) AMPLIMITE I B-to-B Connector; Positions: 48; Note: Series I; Gender: Receptacle Header; Note: Without Mating Lock; PCB_Layout: Complies with manufacturer's recommendation.; DrillSize: Corresponds to nominal value.; Published: 17-Jul-2002; DatasheetDocument: Apr-1991; PackageDocument: Apr-1991; PackageReference: 174207-6; Publisher: Altium Limited; Orientation: Right Angle; ComponentLink1Description: Manufacturer Link; ComponentLink1URL: http://www.tycoelectronics.com/; ComponentLink2Description: Packaging Specification; ComponentLink2URL: http://ecommas.tycoelectronics.com/commerce/DocumentDelivery/DDEController?Action=showdoc&DocId=Customer+Drawing%7F174207%7FF%7Fpdf%7FEnglish%7FENG_CD_174207_F.pdf
footprint 174207-6 (Connector; D Subminiature 050 Series; 48 Position; Right Angle)
signal-integrity model D Subminiature
pins: 1, 2, 3, 4, 5, 6, 7, 8, 9, 10, 11, 12, 13, 14, 15, 16, 17, 18, 19, 20, 21, 22, 23, 24, 25, 26, 27, 28, 29, 30, 31, 32, 33, 34, 35, 36, 37, 38, 39, 40, 41, 42, 43, 44, 45, 46, 47, 48, 49 MH1, 50 MH2

## 174213-1
designator J?
Plug Assembly, (Horizontal without Leg) AMPLIMITE I B-to-B Connector; Positions: 30; Note: Series I; Gender: Receptacle Header; Note: Without Mating Lock; PCB_Layout: Complies with manufacturer's recommendation.; DrillSize: Corresponds to nominal value.; Published: 17-Jul-2002; DatasheetDocument: Oct-1991; PackageDocument: 31-Oct-1991; PackageReference: 174213-1; Publisher: Altium Limited; Orientation: Right Angle; ComponentLink1Description: Manufacturer Link; ComponentLink1URL: http://www.tycoelectronics.com/; ComponentLink2Description: Packaging Specification; ComponentLink2URL: http://ecommas.tycoelectronics.com/commerce/DocumentDelivery/DDEController?Action=showdoc&DocId=Customer+Drawing%7F174213%7FE%7Fpdf%7FEnglish%7FENG_CD_174213_E.pdf
footprint 174213-1 (Connector; D Subminiature 050 Series; 30 Position; Right Angle)
signal-integrity model D Subminiature
pins: 1, 2, 3, 4, 5, 6, 7, 8, 9, 10, 11, 12, 13, 14, 15, 16, 17, 18, 19, 20, 21, 22, 23, 24, 25, 26, 27, 28, 29, 30, 31 MH1, 32 MH2

## 174213-2
designator J?
Plug Assembly, (Horizontal without Leg) AMPLIMITE I B-to-B Connector; Positions: 40; Note: Series I; Gender: Receptacle Header; Note: Without Mating Lock; PCB_Layout: Complies with manufacturer's recommendation.; DrillSize: Corresponds to nominal value.; Published: 17-Jul-2002; DatasheetDocument: Oct-1991; PackageDocument: 31-Oct-1991; PackageReference: 174213-2; Publisher: Altium Limited; Orientation: Right Angle; ComponentLink1Description: Manufacturer Link; ComponentLink1URL: http://www.tycoelectronics.com/; ComponentLink2Description: Packaging Specification; ComponentLink2URL: http://ecommas.tycoelectronics.com/commerce/DocumentDelivery/DDEController?Action=showdoc&DocId=Customer+Drawing%7F174213%7FE%7Fpdf%7FEnglish%7FENG_CD_174213_E.pdf
footprint 174213-2 (Connector; D Subminiature 050 Series; 40 Position; Right Angle)
signal-integrity model D Subminiature
pins: 1, 2, 3, 4, 5, 6, 7, 8, 9, 10, 11, 12, 13, 14, 15, 16, 17, 18, 19, 20, 21, 22, 23, 24, 25, 26, 27, 28, 29, 30, 31, 32, 33, 34, 35, 36, 37, 38, 39, 40, 41 MH1, 42 MH2

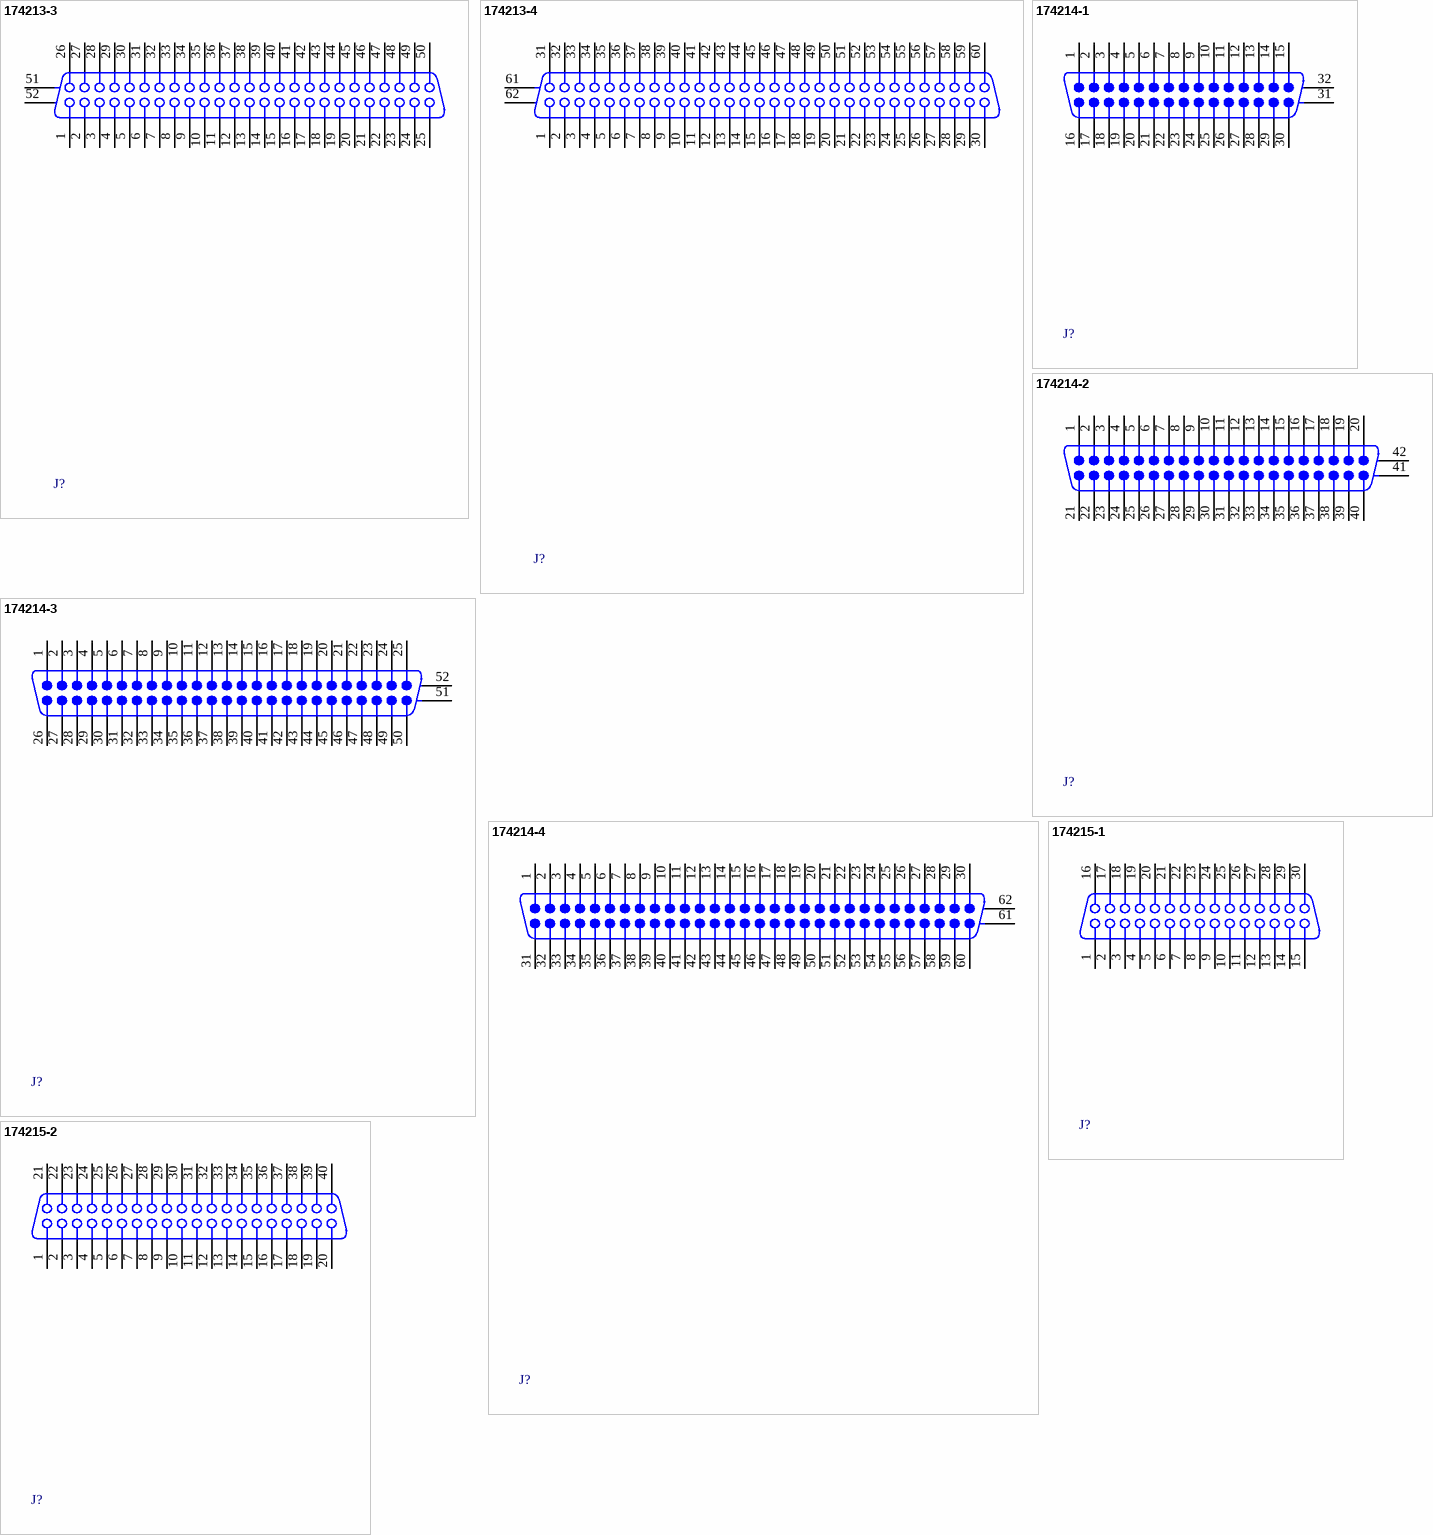
[diagram p14: symbols 174213-3 to 174215-2]

## 174213-3
designator J?
Plug Assembly, (Horizontal without Leg) AMPLIMITE I B-to-B Connector; Positions: 50; Note: Series I; Gender: Receptacle Header; Note: Without Mating Lock; PCB_Layout: Complies with manufacturer's recommendation.; DrillSize: Corresponds to nominal value.; Published: 17-Jul-2002; DatasheetDocument: Oct-1991; PackageDocument: 31-Oct-1991; PackageReference: 174213-3; Publisher: Altium Limited; Orientation: Right Angle; ComponentLink1Description: Manufacturer Link; ComponentLink1URL: http://www.tycoelectronics.com/; ComponentLink2Description: Packaging Specification; ComponentLink2URL: http://ecommas.tycoelectronics.com/commerce/DocumentDelivery/DDEController?Action=showdoc&DocId=Customer+Drawing%7F174213%7FE%7Fpdf%7FEnglish%7FENG_CD_174213_E.pdf
footprint 174213-3 (Connector; D Subminiature 050 Series; 50 Position; Right Angle)
signal-integrity model D Subminiature
pins: 1, 2, 3, 4, 5, 6, 7, 8, 9, 10, 11, 12, 13, 14, 15, 16, 17, 18, 19, 20, 21, 22, 23, 24, 25, 26, 27, 28, 29, 30, 31, 32, 33, 34, 35, 36, 37, 38, 39, 40, 41, 42, 43, 44, 45, 46, 47, 48, 49, 50, 51 MH1, 52 MH2

## 174213-4
designator J?
Plug Assembly, (Horizontal without Leg) AMPLIMITE I B-to-B Connector; Positions: 60; Note: Series I; Gender: Receptacle Header; Note: Without Mating Lock; PCB_Layout: Complies with manufacturer's recommendation.; DrillSize: Corresponds to nominal value.; Published: 17-Jul-2002; DatasheetDocument: Oct-1991; PackageDocument: 31-Oct-1991; PackageReference: 174213-4; Publisher: Altium Limited; Orientation: Right Angle; ComponentLink1Description: Manufacturer Link; ComponentLink1URL: http://www.tycoelectronics.com/; ComponentLink2Description: Packaging Specification; ComponentLink2URL: http://ecommas.tycoelectronics.com/commerce/DocumentDelivery/DDEController?Action=showdoc&DocId=Customer+Drawing%7F174213%7FE%7Fpdf%7FEnglish%7FENG_CD_174213_E.pdf
footprint 174213-4 (Connector; D Subminiature 050 Series; 60 Position; Right Angle)
signal-integrity model D Subminiature
pins: 1, 2, 3, 4, 5, 6, 7, 8, 9, 10, 11, 12, 13, 14, 15, 16, 17, 18, 19, 20, 21, 22, 23, 24, 25, 26, 27, 28, 29, 30, 31, 32, 33, 34, 35, 36, 37, 38, 39, 40, 41, 42, 43, 44, 45, 46, 47, 48, 49, 50, 51, 52, 53, 54, 55, 56, 57, 58, 59, 60, 61 MH1, 62 MH2

## 174214-1
designator J?
Cap Assembly, (Horizontal without Leg) AMPLIMITE I B-to-B Connector; Positions: 30; Note: Series I; Gender: Plug Header; Note: Without Mating Lock; PCB_Layout: Complies with manufacturer's recommendation.; DrillSize: Corresponds to nominal value.; Published: 17-Jul-2002; DatasheetDocument: Oct-1991; PackageDocument: 31-Oct-1991; PackageReference: 174214-1; Publisher: Altium Limited; Orientation: Right Angle; ComponentLink1Description: Manufacturer Link; ComponentLink1URL: http://www.tycoelectronics.com/; ComponentLink2Description: Packaging Specification; ComponentLink2URL: http://ecommas.tycoelectronics.com/commerce/DocumentDelivery/DDEController?Action=showdoc&DocId=Customer+Drawing%7F174214%7FE%7Fpdf%7FEnglish%7FENG_CD_174214_E.pdf
footprint 174214-1 (Connector; D Subminiature 050 Series; 30 Position; Right Angle)
signal-integrity model D Subminiature
pins: 1, 2, 3, 4, 5, 6, 7, 8, 9, 10, 11, 12, 13, 14, 15, 16, 17, 18, 19, 20, 21, 22, 23, 24, 25, 26, 27, 28, 29, 30, 31 MH1, 32 MH2

## 174214-2
designator J?
Cap Assembly, (Horizontal without Leg) AMPLIMITE I B-to-B Connector; Positions: 40; Note: Series I; Gender: Plug Header; Note: Without Mating Lock; PCB_Layout: Complies with manufacturer's recommendation.; DrillSize: Corresponds to nominal value.; Published: 17-Jul-2002; DatasheetDocument: Oct-1991; PackageDocument: 31-Oct-1991; PackageReference: 174214-2; Publisher: Altium Limited; Orientation: Right Angle; ComponentLink1Description: Manufacturer Link; ComponentLink1URL: http://www.tycoelectronics.com/; ComponentLink2Description: Packaging Specification; ComponentLink2URL: http://ecommas.tycoelectronics.com/commerce/DocumentDelivery/DDEController?Action=showdoc&DocId=Customer+Drawing%7F174214%7FE%7Fpdf%7FEnglish%7FENG_CD_174214_E.pdf
footprint 174214-2 (Connector; D Subminiature 050 Series; 40 Position; Right Angle)
signal-integrity model D Subminiature
pins: 1, 2, 3, 4, 5, 6, 7, 8, 9, 10, 11, 12, 13, 14, 15, 16, 17, 18, 19, 20, 21, 22, 23, 24, 25, 26, 27, 28, 29, 30, 31, 32, 33, 34, 35, 36, 37, 38, 39, 40, 41 MH1, 42 MH2

## 174214-3
designator J?
Cap Assembly, (Horizontal without Leg) AMPLIMITE I B-to-B Connector; Positions: 50; Note: Series I; Gender: Plug Header; Note: Without Mating Lock; PCB_Layout: Complies with manufacturer's recommendation.; DrillSize: Corresponds to nominal value.; Published: 17-Jul-2002; DatasheetDocument: Oct-1991; PackageDocument: 31-Oct-1991; PackageReference: 174214-3; Publisher: Altium Limited; Orientation: Right Angle; ComponentLink1Description: Manufacturer Link; ComponentLink1URL: http://www.tycoelectronics.com/; ComponentLink2Description: Packaging Specification; ComponentLink2URL: http://ecommas.tycoelectronics.com/commerce/DocumentDelivery/DDEController?Action=showdoc&DocId=Customer+Drawing%7F174214%7FE%7Fpdf%7FEnglish%7FENG_CD_174214_E.pdf
footprint 174214-3 (Connector; D Subminiature 050 Series; 50 Position; Right Angle)
signal-integrity model D Subminiature
pins: 1, 2, 3, 4, 5, 6, 7, 8, 9, 10, 11, 12, 13, 14, 15, 16, 17, 18, 19, 20, 21, 22, 23, 24, 25, 26, 27, 28, 29, 30, 31, 32, 33, 34, 35, 36, 37, 38, 39, 40, 41, 42, 43, 44, 45, 46, 47, 48, 49, 50, 51 MH1, 52 MH2

## 174214-4
designator J?
Cap Assembly, (Horizontal without Leg) AMPLIMITE I B-to-B Connector; Positions: 60; Note: Series I; Gender: Plug Header; Note: Without Mating Lock; PCB_Layout: Complies with manufacturer's recommendation.; DrillSize: Corresponds to nominal value.; Published: 17-Jul-2002; DatasheetDocument: Oct-1991; PackageDocument: 31-Oct-1991; PackageReference: 174214-4; Publisher: Altium Limited; Orientation: Right Angle; ComponentLink1Description: Manufacturer Link; ComponentLink1URL: http://www.tycoelectronics.com/; ComponentLink2Description: Packaging Specification; ComponentLink2URL: http://ecommas.tycoelectronics.com/commerce/DocumentDelivery/DDEController?Action=showdoc&DocId=Customer+Drawing%7F174214%7FE%7Fpdf%7FEnglish%7FENG_CD_174214_E.pdf
footprint 174214-4 (Connector; D Subminiature 050 Series; 60 Position; Right Angle)
signal-integrity model D Subminiature
pins: 1, 2, 3, 4, 5, 6, 7, 8, 9, 10, 11, 12, 13, 14, 15, 16, 17, 18, 19, 20, 21, 22, 23, 24, 25, 26, 27, 28, 29, 30, 31, 32, 33, 34, 35, 36, 37, 38, 39, 40, 41, 42, 43, 44, 45, 46, 47, 48, 49, 50, 51, 52, 53, 54, 55, 56, 57, 58, 59, 60, 61 MH1, 62 MH2

## 174215-1
designator J?
Plug Assembly, (Vertical without Screw Hole) AMPLIMITE 050 Series I B-to-B Connector; Positions: 30; Gender: Receptacle Header; Note: Without Mating Lock; PCB_Layout: Complies with manufacturer's recommendation.; DrillSize: Corresponds to nominal value.; Published: 17-Jul-2002; DatasheetDocument: Apr-1991; PackageDocument: Apr-1991; PackageReference: 174215-1; Publisher: Altium Limited; Orientation: Vertical; Note: Series I; ComponentLink1Description: Manufacturer Link; ComponentLink1URL: http://www.tycoelectronics.com/; ComponentLink2Description: Packaging Specification; ComponentLink2URL: http://ecommas.tycoelectronics.com/commerce/DocumentDelivery/DDEController?Action=showdoc&DocId=Customer+Drawing%7F174215%7FD%7Fpdf%7FEnglish%7FENG_CD_174215_D.pdf
footprint 174215-1 (Connector; D Subminiature 050 Series; 30 Position; Vertical)
signal-integrity model D Subminiature
pins: 1, 2, 3, 4, 5, 6, 7, 8, 9, 10, 11, 12, 13, 14, 15, 16, 17, 18, 19, 20, 21, 22, 23, 24, 25, 26, 27, 28, 29, 30

## 174215-2
designator J?
Plug Assembly, (Vertical without Screw Hole) AMPLIMITE 050 Series I B-to-B Connector; Positions: 40; Gender: Receptacle Header; Note: Without Mating Lock; PCB_Layout: Complies with manufacturer's recommendation.; DrillSize: Corresponds to nominal value.; Published: 17-Jul-2002; DatasheetDocument: Apr-1991; PackageDocument: Apr-1991; PackageReference: 174215-2; Publisher: Altium Limited; Orientation: Vertical; Note: Series I; ComponentLink1Description: Manufacturer Link; ComponentLink1URL: http://www.tycoelectronics.com/; ComponentLink2Description: Packaging Specification; ComponentLink2URL: http://ecommas.tycoelectronics.com/commerce/DocumentDelivery/DDEController?Action=showdoc&DocId=Customer+Drawing%7F174215%7FD%7Fpdf%7FEnglish%7FENG_CD_174215_D.pdf
footprint 174215-2 (Connector; D Subminiature 050 Series; 40 Position; Vertical)
signal-integrity model D Subminiature
pins: 1, 2, 3, 4, 5, 6, 7, 8, 9, 10, 11, 12, 13, 14, 15, 16, 17, 18, 19, 20, 21, 22, 23, 24, 25, 26, 27, 28, 29, 30, 31, 32, 33, 34, 35, 36, 37, 38, 39, 40

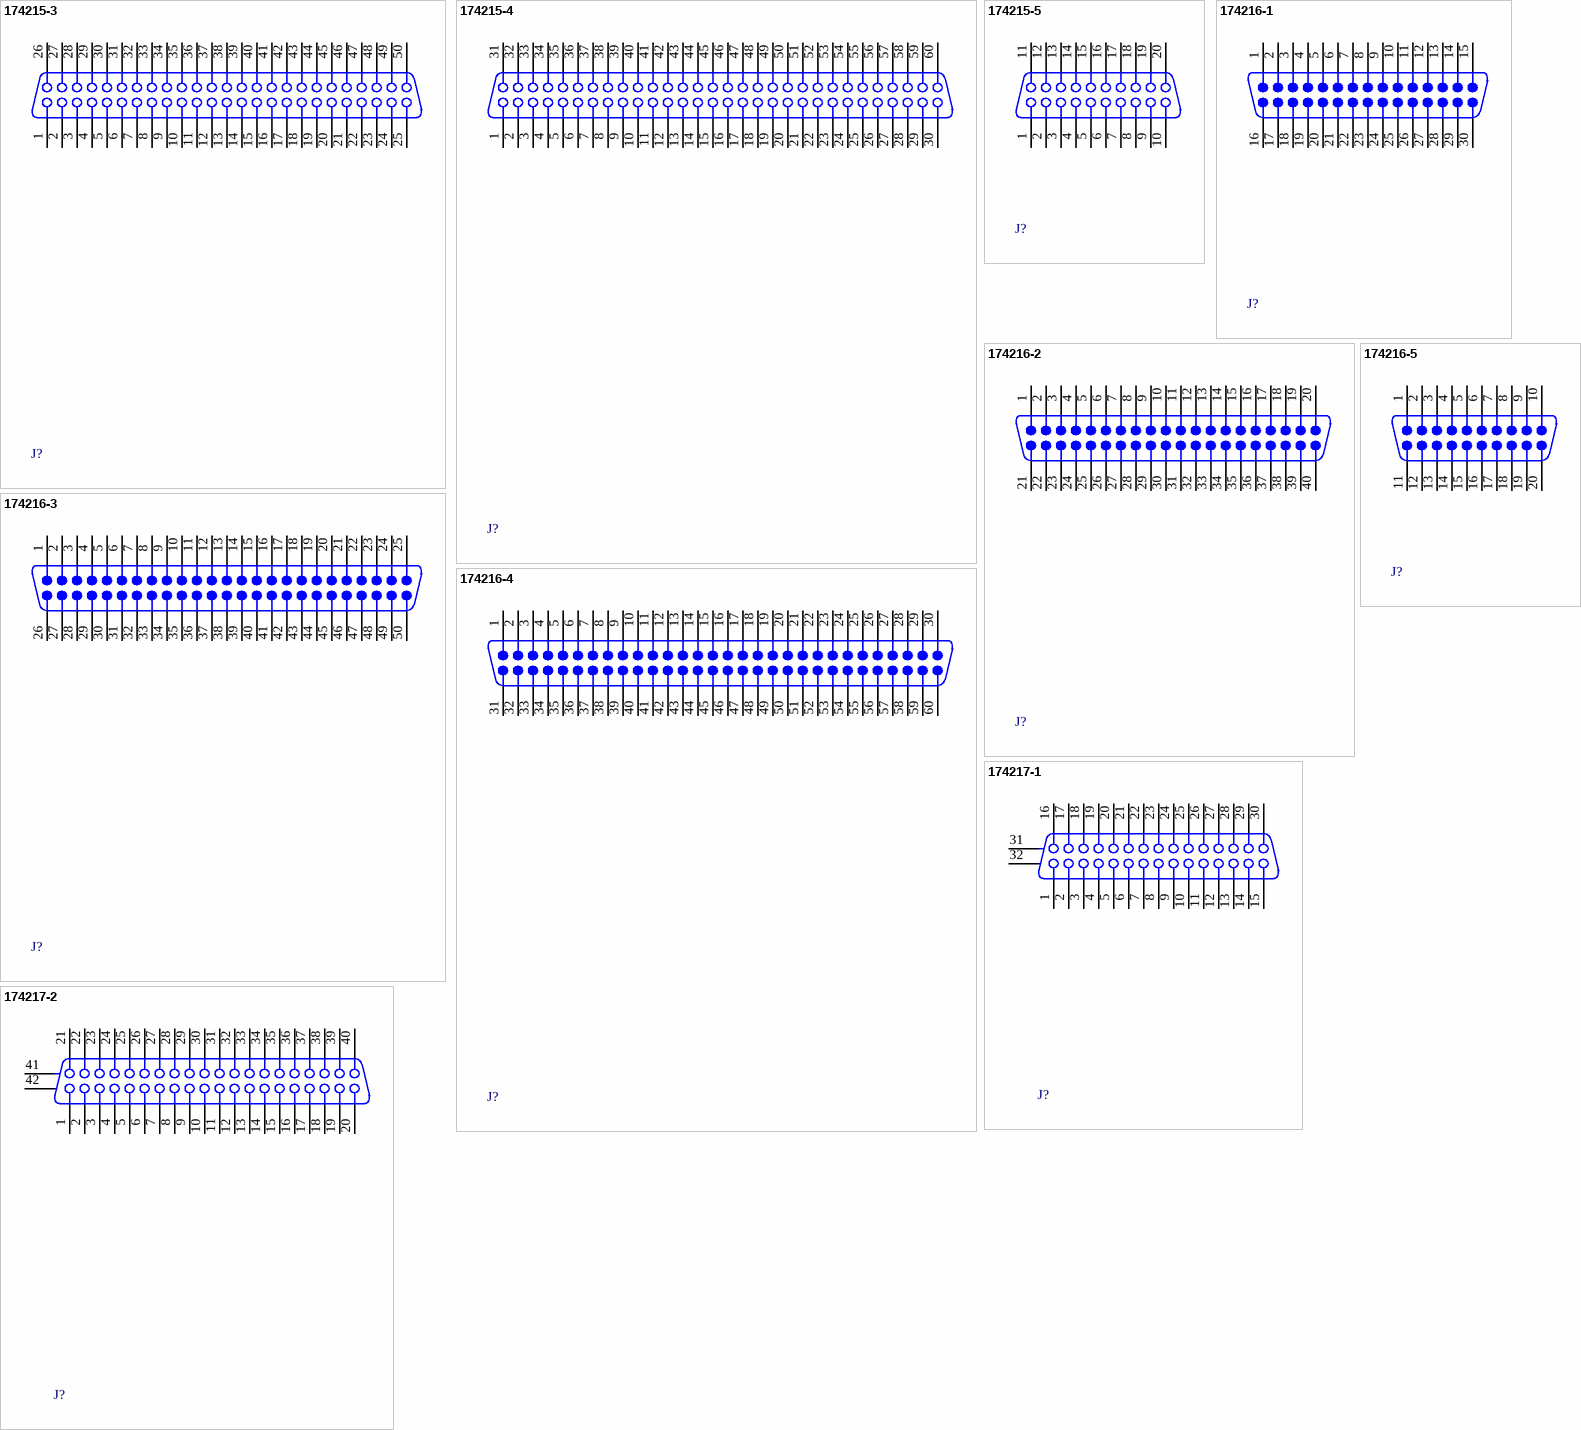
[diagram p15: symbols 174215-3 to 174217-2]

## 174215-3
designator J?
Plug Assembly, (Vertical without Screw Hole) AMPLIMITE 050 Series I B-to-B Connector; Positions: 50; Gender: Receptacle Header; Note: Without Mating Lock; PCB_Layout: Complies with manufacturer's recommendation.; DrillSize: Corresponds to nominal value.; Published: 17-Jul-2002; DatasheetDocument: Apr-1991; PackageDocument: Apr-1991; PackageReference: 174215-3; Publisher: Altium Limited; Orientation: Vertical; Note: Series I; ComponentLink1Description: Manufacturer Link; ComponentLink1URL: http://www.tycoelectronics.com/; ComponentLink2Description: Packaging Specification; ComponentLink2URL: http://ecommas.tycoelectronics.com/commerce/DocumentDelivery/DDEController?Action=showdoc&DocId=Customer+Drawing%7F174215%7FD%7Fpdf%7FEnglish%7FENG_CD_174215_D.pdf
footprint 174215-3 (Connector; D Subminiature 050 Series; 50 Position; Vertical)
signal-integrity model D Subminiature
pins: 1, 2, 3, 4, 5, 6, 7, 8, 9, 10, 11, 12, 13, 14, 15, 16, 17, 18, 19, 20, 21, 22, 23, 24, 25, 26, 27, 28, 29, 30, 31, 32, 33, 34, 35, 36, 37, 38, 39, 40, 41, 42, 43, 44, 45, 46, 47, 48, 49, 50

## 174215-4
designator J?
Plug Assembly, (Vertical without Screw Hole) AMPLIMITE 050 Series I B-to-B Connector; Positions: 60; Gender: Receptacle Header; Note: Without Mating Lock; PCB_Layout: Complies with manufacturer's recommendation.; DrillSize: Corresponds to nominal value.; Published: 17-Jul-2002; DatasheetDocument: Apr-1991; PackageDocument: Apr-1991; PackageReference: 174215-4; Publisher: Altium Limited; Orientation: Vertical; Note: Series I; ComponentLink1Description: Manufacturer Link; ComponentLink1URL: http://www.tycoelectronics.com/; ComponentLink2Description: Packaging Specification; ComponentLink2URL: http://ecommas.tycoelectronics.com/commerce/DocumentDelivery/DDEController?Action=showdoc&DocId=Customer+Drawing%7F174215%7FD%7Fpdf%7FEnglish%7FENG_CD_174215_D.pdf
footprint 174215-4 (Connector; D Subminiature 050 Series; 60 Position; Vertical)
signal-integrity model D Subminiature
pins: 1, 2, 3, 4, 5, 6, 7, 8, 9, 10, 11, 12, 13, 14, 15, 16, 17, 18, 19, 20, 21, 22, 23, 24, 25, 26, 27, 28, 29, 30, 31, 32, 33, 34, 35, 36, 37, 38, 39, 40, 41, 42, 43, 44, 45, 46, 47, 48, 49, 50, 51, 52, 53, 54, 55, 56, 57, 58, 59, 60